# Altium integrated library CDE_Library.IntLib: 6171 symbols (part 24 of 25)
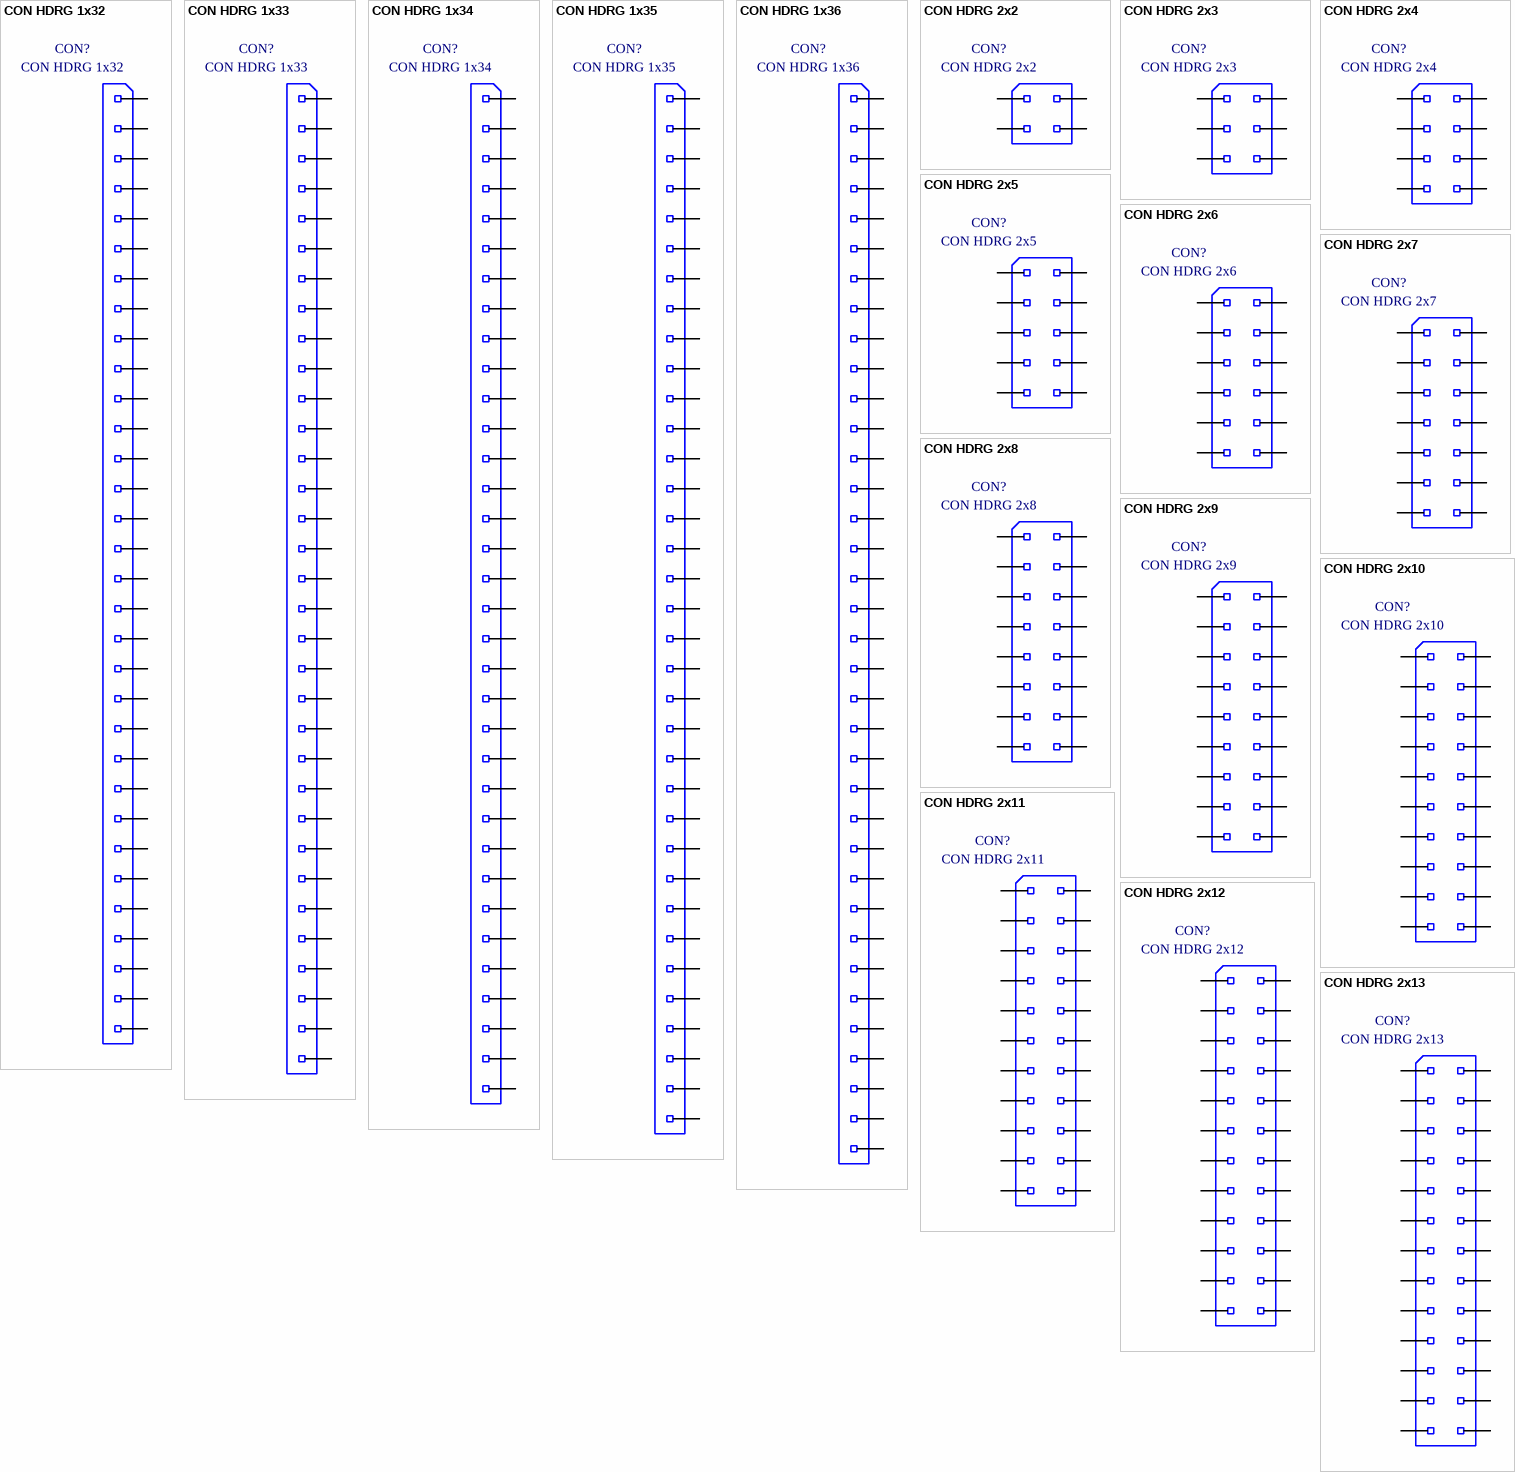
[diagram p280: symbols CON HDRG 1x32 to CON HDRG 2x13]

## CON HDRG 2x8
designator CON?
pcb header recht 2x8  pitch 100mil; Part Number: CON HDRG 2x8; Component Kind: Standard; Component Type: Standard; Designator: CON HDRG 2x8; Footprint: hdr 90gr 2x8; Library Reference: CON HDRG 2x8; Pin Count: 16
footprint hdr 90gr 2x8
pins: 1, 2, 3, 4, 5, 6, 7, 8, 9, 10, 11, 12, 13, 14, 15, 16

## CON HDRG 2x9
designator CON?
pcb header recht 2x9  pitch 100mil; Part Number: CON HDRG 2x9; Component Kind: Standard; Component Type: Standard; Designator: CON HDRG 2x9; Footprint: hdr 90gr 2x9; Library Reference: CON HDRG 2x9; Pin Count: 18
footprint hdr 90gr 2x9
pins: 1, 2, 3, 4, 5, 6, 7, 8, 9, 10, 11, 12, 13, 14, 15, 16, 17, 18

## CON HDRG 2x10
designator CON?
pcb header recht 2x10  pitch 100mil; Part Number: CON HDRG 2x10; Component Kind: Standard; Component Type: Standard; Designator: CON HDRG 2x10; Footprint: hdr 90gr 2x10; Library Reference: CON HDRG 2x10; Pin Count: 20
footprint hdr 90gr 2x10
pins: 1, 2, 3, 4, 5, 6, 7, 8, 9, 10, 11, 12, 13, 14, 15, 16, 17, 18, 19, 20

## CON HDRG 2x11
designator CON?
pcb header recht 2x11  pitch 100mil; Part Number: CON HDRG 2x11; Component Kind: Standard; Component Type: Standard; Designator: CON HDRG 2x11; Footprint: hdr 90gr 2x11; Library Reference: CON HDRG 2x11; Pin Count: 22
footprint hdr 90gr 2x11
pins: 1, 2, 3, 4, 5, 6, 7, 8, 9, 10, 11, 12, 13, 14, 15, 16, 17, 18, 19, 20, 21, 22

## CON HDRG 2x12
designator CON?
pcb header recht 2x12  pitch 100mil; Part Number: CON HDRG 2x12; Component Kind: Standard; Component Type: Standard; Designator: CON HDRG 2x12; Footprint: hdr 90gr 2x12; Library Reference: CON HDRG 2x12; Pin Count: 24
footprint hdr 90gr 2x12
pins: 1, 2, 3, 4, 5, 6, 7, 8, 9, 10, 11, 12, 13, 14, 15, 16, 17, 18, 19, 20, 21, 22, 23, 24

## CON HDRG 2x13
designator CON?
pcb header recht 2x13  pitch 100mil; Part Number: CON HDRG 2x13; Component Kind: Standard; Component Type: Standard; Designator: CON HDRG 2x13; Footprint: hdr 90gr 2x13; Library Reference: CON HDRG 2x13; Pin Count: 26
footprint hdr 90gr 2x13
pins: 1, 2, 3, 4, 5, 6, 7, 8, 9, 10, 11, 12, 13, 14, 15, 16, 17, 18, 19, 20, 21, 22, 23, 24, 25, 26

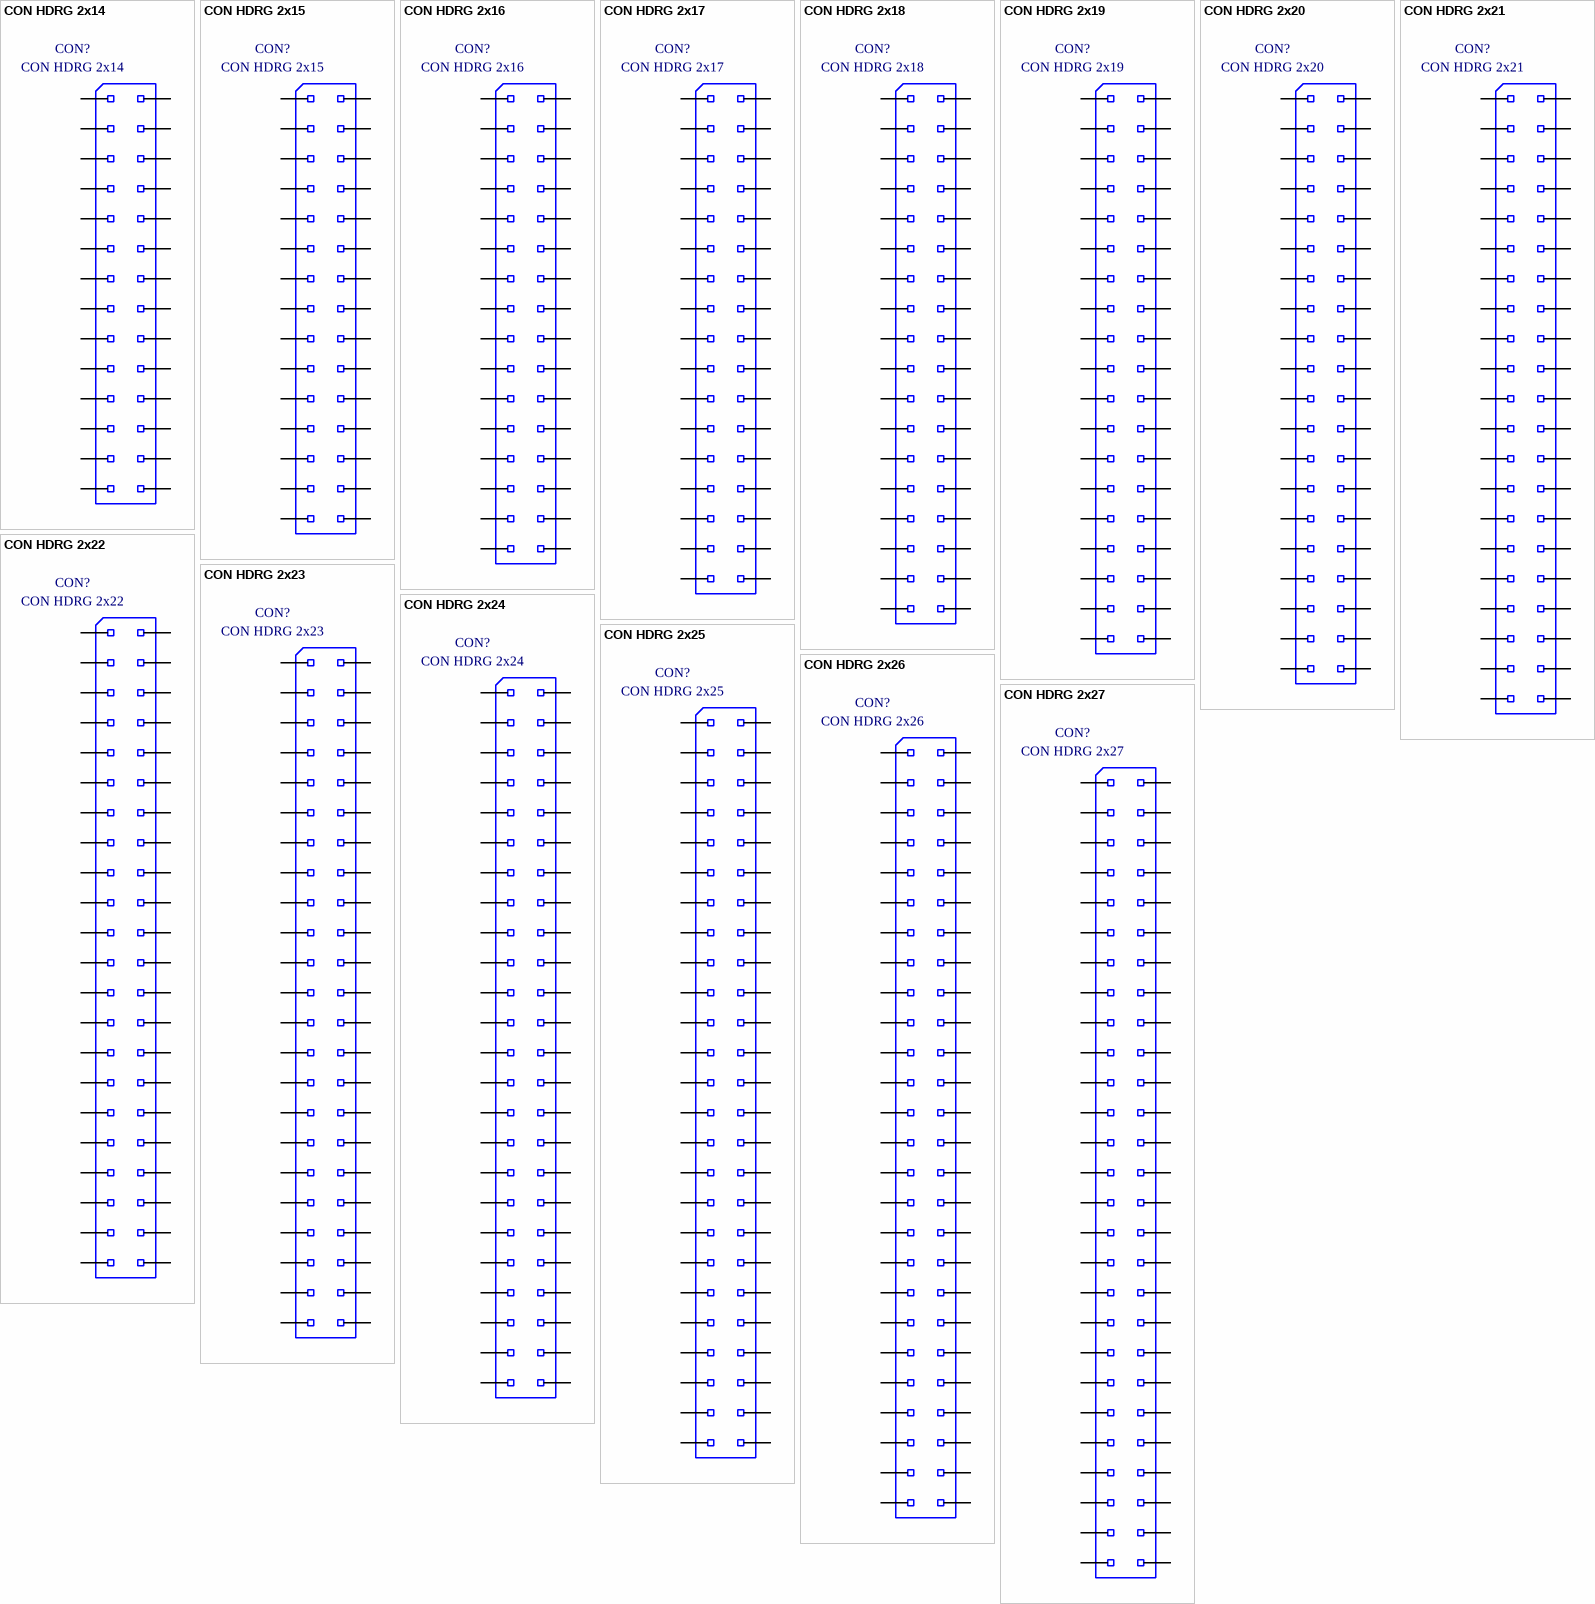
[diagram p249: symbols CON HDRG 2x14 to CON HDRG 2x27]

## CON HDRG 2x14
designator CON?
pcb header recht 2x14  pitch 100mil; Part Number: CON HDRG 2x14; Component Kind: Standard; Component Type: Standard; Designator: CON HDRG 2x14; Footprint: hdr 90gr 2x14; Library Reference: CON HDRG 2x14; Pin Count: 28
footprint hdr 90gr 2x14
pins: 1, 2, 3, 4, 5, 6, 7, 8, 9, 10, 11, 12, 13, 14, 15, 16, 17, 18, 19, 20, 21, 22, 23, 24, 25, 26, 27, 28

## CON HDRG 2x15
designator CON?
pcb header recht 2x15  pitch 100mil; Part Number: CON HDRG 2x15; Component Kind: Standard; Component Type: Standard; Designator: CON HDRG 2x15; Footprint: hdr 90gr 2x15; Library Reference: CON HDRG 2x15; Pin Count: 30
footprint hdr 90gr 2x15
pins: 1, 2, 3, 4, 5, 6, 7, 8, 9, 10, 11, 12, 13, 14, 15, 16, 17, 18, 19, 20, 21, 22, 23, 24, 25, 26, 27, 28, 29, 30

## CON HDRG 2x16
designator CON?
pcb header recht 2x16  pitch 100mil; Part Number: CON HDRG 2x16; Component Kind: Standard; Component Type: Standard; Designator: CON HDRG 2x16; Footprint: hdr 90gr 2x16; Library Reference: CON HDRG 2x16; Pin Count: 32
footprint hdr 90gr 2x16
pins: 1, 2, 3, 4, 5, 6, 7, 8, 9, 10, 11, 12, 13, 14, 15, 16, 17, 18, 19, 20, 21, 22, 23, 24, 25, 26, 27, 28, 29, 30, 31, 32

## CON HDRG 2x17
designator CON?
pcb header recht 2x17  pitch 100mil; Part Number: CON HDRG 2x17; Component Kind: Standard; Component Type: Standard; Designator: CON HDRG 2x17; Footprint: hdr 90gr 2x17; Library Reference: CON HDRG 2x17; Pin Count: 34
footprint hdr 90gr 2x17
pins: 1, 2, 3, 4, 5, 6, 7, 8, 9, 10, 11, 12, 13, 14, 15, 16, 17, 18, 19, 20, 21, 22, 23, 24, 25, 26, 27, 28, 29, 30, 31, 32, 33, 34

## CON HDRG 2x18
designator CON?
pcb header recht 2x18  pitch 100mil; Part Number: CON HDRG 2x18; Component Kind: Standard; Component Type: Standard; Designator: CON HDRG 2x18; Footprint: hdr 90gr 2x18; Library Reference: CON HDRG 2x18; Pin Count: 36
footprint hdr 90gr 2x18
pins: 1, 2, 3, 4, 5, 6, 7, 8, 9, 10, 11, 12, 13, 14, 15, 16, 17, 18, 19, 20, 21, 22, 23, 24, 25, 26, 27, 28, 29, 30, 31, 32, 33, 34, 35, 36

## CON HDRG 2x19
designator CON?
pcb header recht 2x19  pitch 100mil; Part Number: CON HDRG 2x19; Component Kind: Standard; Component Type: Standard; Designator: CON HDRG 2x19; Footprint: hdr 90gr 2x19; Library Reference: CON HDRG 2x19; Pin Count: 38
footprint hdr 90gr 2x19
pins: 1, 2, 3, 4, 5, 6, 7, 8, 9, 10, 11, 12, 13, 14, 15, 16, 17, 18, 19, 20, 21, 22, 23, 24, 25, 26, 27, 28, 29, 30, 31, 32, 33, 34, 35, 36, 37, 38

## CON HDRG 2x20
designator CON?
pcb header recht 2x20  pitch 100mil; Part Number: CON HDRG 2x20; Component Kind: Standard; Component Type: Standard; Designator: CON HDRG 2x20; Footprint: hdr 90gr 2x20; Library Reference: CON HDRG 2x20; Pin Count: 40
footprint hdr 90gr 2x20
pins: 1, 2, 3, 4, 5, 6, 7, 8, 9, 10, 11, 12, 13, 14, 15, 16, 17, 18, 19, 20, 21, 22, 23, 24, 25, 26, 27, 28, 29, 30, 31, 32, 33, 34, 35, 36, 37, 38, 39, 40

## CON HDRG 2x21
designator CON?
pcb header recht 2x21  pitch 100mil; Part Number: CON HDRG 2x21; Component Kind: Standard; Component Type: Standard; Designator: CON HDRG 2x21; Footprint: hdr 90gr 2x21; Library Reference: CON HDRG 2x21; Pin Count: 42
footprint hdr 90gr 2x21
pins: 1, 2, 3, 4, 5, 6, 7, 8, 9, 10, 11, 12, 13, 14, 15, 16, 17, 18, 19, 20, 21, 22, 23, 24, 25, 26, 27, 28, 29, 30, 31, 32, 33, 34, 35, 36, 37, 38, 39, 40, 41, 42

## CON HDRG 2x22
designator CON?
pcb header recht 2x22  pitch 100mil; Part Number: CON HDRG 2x22; Component Kind: Standard; Component Type: Standard; Designator: CON HDRG 2x22; Footprint: hdr 90gr 2x22; Library Reference: CON HDRG 2x22; Pin Count: 44
footprint hdr 90gr 2x22
pins: 1, 2, 3, 4, 5, 6, 7, 8, 9, 10, 11, 12, 13, 14, 15, 16, 17, 18, 19, 20, 21, 22, 23, 24, 25, 26, 27, 28, 29, 30, 31, 32, 33, 34, 35, 36, 37, 38, 39, 40, 41, 42, 43, 44

## CON HDRG 2x23
designator CON?
pcb header recht 2x23  pitch 100mil; Part Number: CON HDRG 2x23; Component Kind: Standard; Component Type: Standard; Designator: CON HDRG 2x23; Footprint: hdr 90gr 2x23; Library Reference: CON HDRG 2x23; Pin Count: 46
footprint hdr 90gr 2x23
pins: 1, 2, 3, 4, 5, 6, 7, 8, 9, 10, 11, 12, 13, 14, 15, 16, 17, 18, 19, 20, 21, 22, 23, 24, 25, 26, 27, 28, 29, 30, 31, 32, 33, 34, 35, 36, 37, 38, 39, 40, 41, 42, 43, 44, 45, 46

## CON HDRG 2x24
designator CON?
pcb header recht 2x24  pitch 100mil; Part Number: CON HDRG 2x24; Component Kind: Standard; Component Type: Standard; Designator: CON HDRG 2x24; Footprint: hdr 90gr 2x24; Library Reference: CON HDRG 2x24; Pin Count: 48
footprint hdr 90gr 2x24
pins: 1, 2, 3, 4, 5, 6, 7, 8, 9, 10, 11, 12, 13, 14, 15, 16, 17, 18, 19, 20, 21, 22, 23, 24, 25, 26, 27, 28, 29, 30, 31, 32, 33, 34, 35, 36, 37, 38, 39, 40, 41, 42, 43, 44, 45, 46, 47, 48

## CON HDRG 2x25
designator CON?
pcb header recht 2x25  pitch 100mil; Part Number: CON HDRG 2x25; Component Kind: Standard; Component Type: Standard; Designator: CON HDRG 2x25; Footprint: hdr 90gr 2x25; Library Reference: CON HDRG 2x25; Pin Count: 50
footprint hdr 90gr 2x25
pins: 1, 2, 3, 4, 5, 6, 7, 8, 9, 10, 11, 12, 13, 14, 15, 16, 17, 18, 19, 20, 21, 22, 23, 24, 25, 26, 27, 28, 29, 30, 31, 32, 33, 34, 35, 36, 37, 38, 39, 40, 41, 42, 43, 44, 45, 46, 47, 48, 49, 50

## CON HDRG 2x26
designator CON?
pcb header recht 2x26  pitch 100mil; Part Number: CON HDRG 2x26; Component Kind: Standard; Component Type: Standard; Designator: CON HDRG 2x26; Footprint: hdr 90gr 2x26; Library Reference: CON HDRG 2x26; Pin Count: 52
footprint hdr 90gr 2x26
pins: 1, 2, 3, 4, 5, 6, 7, 8, 9, 10, 11, 12, 13, 14, 15, 16, 17, 18, 19, 20, 21, 22, 23, 24, 25, 26, 27, 28, 29, 30, 31, 32, 33, 34, 35, 36, 37, 38, 39, 40, 41, 42, 43, 44, 45, 46, 47, 48, 49, 50, 51, 52

## CON HDRG 2x27
designator CON?
pcb header recht 2x27  pitch 100mil; Part Number: CON HDRG 2x27; Component Kind: Standard; Component Type: Standard; Designator: CON HDRG 2x27; Footprint: hdr 90gr 2x27; Library Reference: CON HDRG 2x27; Pin Count: 54
footprint hdr 90gr 2x27
pins: 1, 2, 3, 4, 5, 6, 7, 8, 9, 10, 11, 12, 13, 14, 15, 16, 17, 18, 19, 20, 21, 22, 23, 24, 25, 26, 27, 28, 29, 30, 31, 32, 33, 34, 35, 36, 37, 38, 39, 40, 41, 42, 43, 44, 45, 46, 47, 48, 49, 50, 51, 52, 53, 54

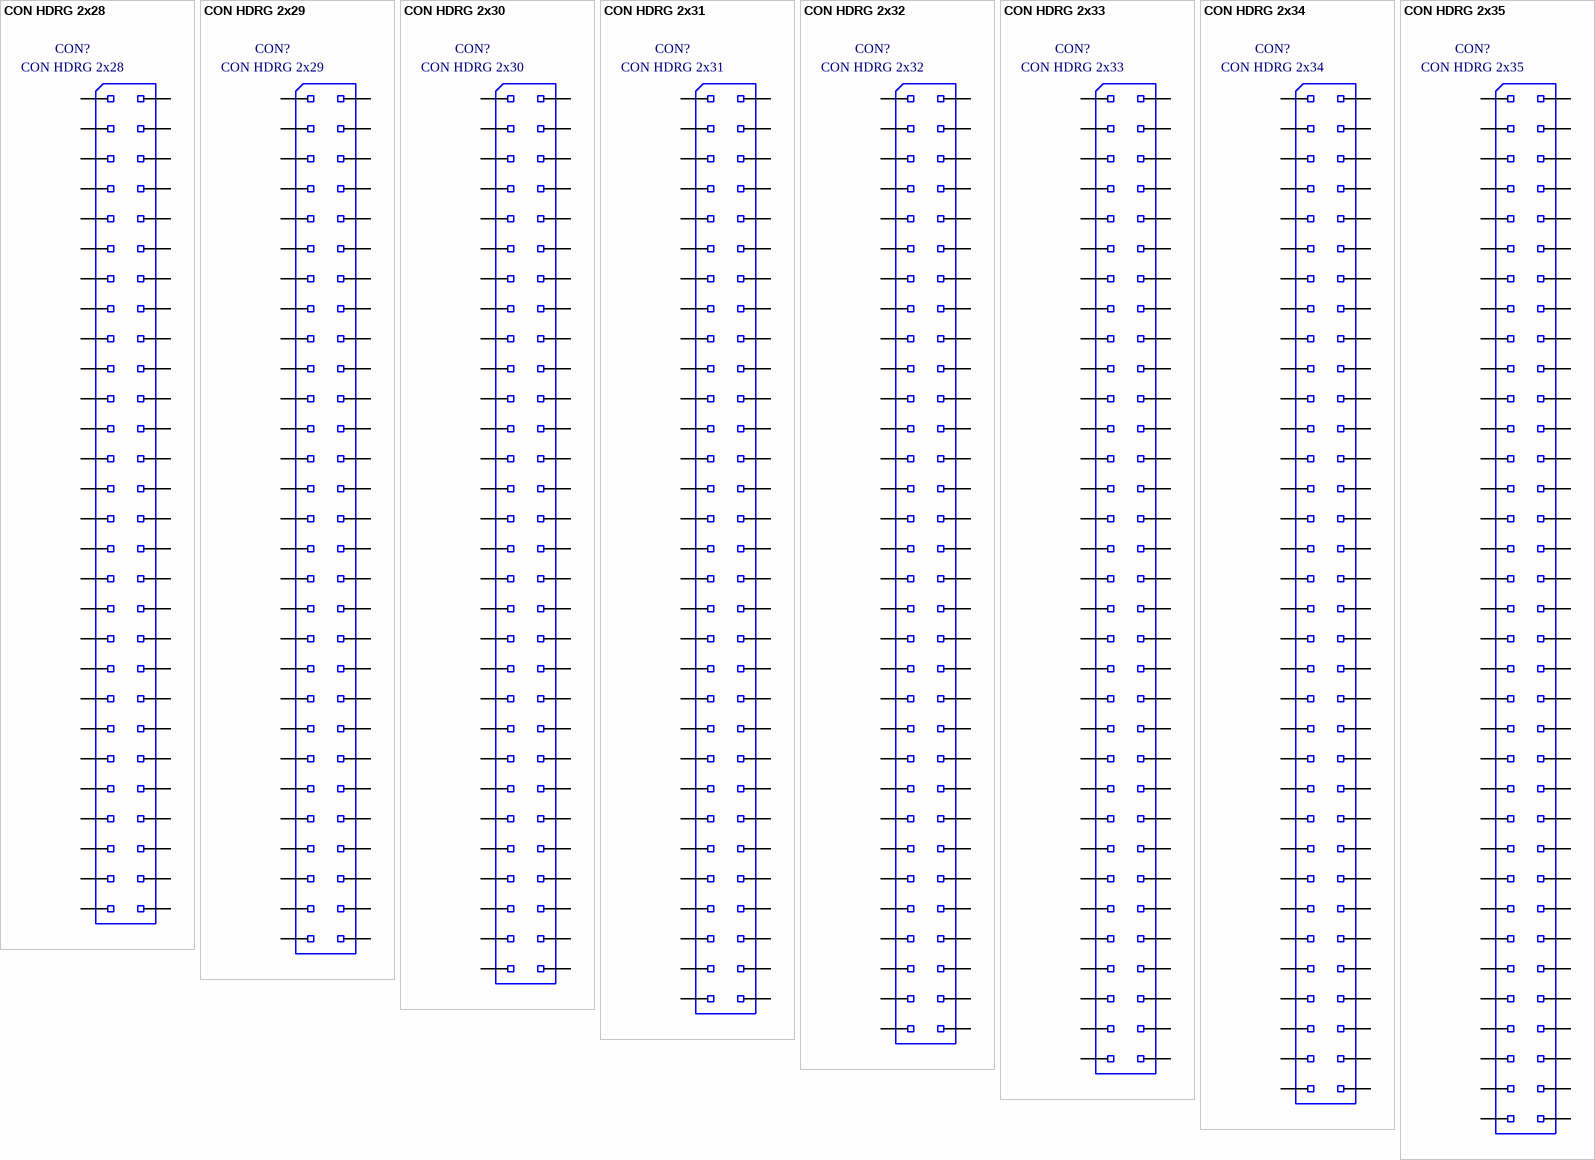
[diagram p250: symbols CON HDRG 2x28 to CON HDRG 2x35]

## CON HDRG 2x28
designator CON?
pcb header recht 2x28  pitch 100mil; Part Number: CON HDRG 2x28; Component Kind: Standard; Component Type: Standard; Designator: CON HDRG 2x28; Footprint: hdr 90gr 2x28; Library Reference: CON HDRG 2x28; Pin Count: 56
footprint hdr 90gr 2x28
pins: 1, 2, 3, 4, 5, 6, 7, 8, 9, 10, 11, 12, 13, 14, 15, 16, 17, 18, 19, 20, 21, 22, 23, 24, 25, 26, 27, 28, 29, 30, 31, 32, 33, 34, 35, 36, 37, 38, 39, 40, 41, 42, 43, 44, 45, 46, 47, 48, 49, 50, 51, 52, 53, 54, 55, 56

## CON HDRG 2x29
designator CON?
pcb header recht 2x29  pitch 100mil; Part Number: CON HDRG 2x29; Component Kind: Standard; Component Type: Standard; Designator: CON HDRG 2x29; Footprint: hdr 90gr 2x29; Library Reference: CON HDRG 2x29; Pin Count: 58
footprint hdr 90gr 2x29
pins: 1, 2, 3, 4, 5, 6, 7, 8, 9, 10, 11, 12, 13, 14, 15, 16, 17, 18, 19, 20, 21, 22, 23, 24, 25, 26, 27, 28, 29, 30, 31, 32, 33, 34, 35, 36, 37, 38, 39, 40, 41, 42, 43, 44, 45, 46, 47, 48, 49, 50, 51, 52, 53, 54, 55, 56, 57, 58

## CON HDRG 2x30
designator CON?
pcb header recht 2x30  pitch 100mil; Part Number: CON HDRG 2x30; Component Kind: Standard; Component Type: Standard; Designator: CON HDRG 2x30; Footprint: hdr 90gr 2x30; Library Reference: CON HDRG 2x30; Pin Count: 60
footprint hdr 90gr 2x30
pins: 1, 2, 3, 4, 5, 6, 7, 8, 9, 10, 11, 12, 13, 14, 15, 16, 17, 18, 19, 20, 21, 22, 23, 24, 25, 26, 27, 28, 29, 30, 31, 32, 33, 34, 35, 36, 37, 38, 39, 40, 41, 42, 43, 44, 45, 46, 47, 48, 49, 50, 51, 52, 53, 54, 55, 56, 57, 58, 59, 60

## CON HDRG 2x31
designator CON?
pcb header recht 2x31  pitch 100mil; Part Number: CON HDRG 2x31; Component Kind: Standard; Component Type: Standard; Designator: CON HDRG 2x31; Footprint: hdr 90gr 2x31; Library Reference: CON HDRG 2x31; Pin Count: 62
footprint hdr 90gr 2x31
pins: 1, 2, 3, 4, 5, 6, 7, 8, 9, 10, 11, 12, 13, 14, 15, 16, 17, 18, 19, 20, 21, 22, 23, 24, 25, 26, 27, 28, 29, 30, 31, 32, 33, 34, 35, 36, 37, 38, 39, 40, 41, 42, 43, 44, 45, 46, 47, 48, 49, 50, 51, 52, 53, 54, 55, 56, 57, 58, 59, 60, 61, 62

## CON HDRG 2x32
designator CON?
pcb header recht 2x32  pitch 100mil; Part Number: CON HDRG 2x32; Component Kind: Standard; Component Type: Standard; Designator: CON HDRG 2x32; Footprint: hdr 90gr 2x32; Library Reference: CON HDRG 2x32; Pin Count: 64
footprint hdr 90gr 2x32
pins: 1, 2, 3, 4, 5, 6, 7, 8, 9, 10, 11, 12, 13, 14, 15, 16, 17, 18, 19, 20, 21, 22, 23, 24, 25, 26, 27, 28, 29, 30, 31, 32, 33, 34, 35, 36, 37, 38, 39, 40, 41, 42, 43, 44, 45, 46, 47, 48, 49, 50, 51, 52, 53, 54, 55, 56, 57, 58, 59, 60, 61, 62, 63, 64

## CON HDRG 2x33
designator CON?
pcb header recht 2x33  pitch 100mil; Part Number: CON HDRG 2x33; Component Kind: Standard; Component Type: Standard; Designator: CON HDRG 2x33; Footprint: hdr 90gr 2x33; Library Reference: CON HDRG 2x33; Pin Count: 66
footprint hdr 90gr 2x33
pins: 1, 2, 3, 4, 5, 6, 7, 8, 9, 10, 11, 12, 13, 14, 15, 16, 17, 18, 19, 20, 21, 22, 23, 24, 25, 26, 27, 28, 29, 30, 31, 32, 33, 34, 35, 36, 37, 38, 39, 40, 41, 42, 43, 44, 45, 46, 47, 48, 49, 50, 51, 52, 53, 54, 55, 56, 57, 58, 59, 60, 61, 62, 63, 64, 65, 66

## CON HDRG 2x34
designator CON?
pcb header recht 2x34  pitch 100mil; Part Number: CON HDRG 2x34; Component Kind: Standard; Component Type: Standard; Designator: CON HDRG 2x34; Footprint: hdr 90gr 2x34; Library Reference: CON HDRG 2x34; Pin Count: 68
footprint hdr 90gr 2x34
pins: 1, 2, 3, 4, 5, 6, 7, 8, 9, 10, 11, 12, 13, 14, 15, 16, 17, 18, 19, 20, 21, 22, 23, 24, 25, 26, 27, 28, 29, 30, 31, 32, 33, 34, 35, 36, 37, 38, 39, 40, 41, 42, 43, 44, 45, 46, 47, 48, 49, 50, 51, 52, 53, 54, 55, 56, 57, 58, 59, 60, 61, 62, 63, 64, 65, 66, 67, 68

## CON HDRG 2x35
designator CON?
pcb header recht 2x35  pitch 100mil; Part Number: CON HDRG 2x35; Component Kind: Standard; Component Type: Standard; Designator: CON HDRG 2x35; Footprint: hdr 90gr 2x35; Library Reference: CON HDRG 2x35; Pin Count: 70
footprint hdr 90gr 2x35
pins: 1, 2, 3, 4, 5, 6, 7, 8, 9, 10, 11, 12, 13, 14, 15, 16, 17, 18, 19, 20, 21, 22, 23, 24, 25, 26, 27, 28, 29, 30, 31, 32, 33, 34, 35, 36, 37, 38, 39, 40, 41, 42, 43, 44, 45, 46, 47, 48, 49, 50, 51, 52, 53, 54, 55, 56, 57, 58, 59, 60, 61, 62, 63, 64, 65, 66, 67, 68, 69, 70

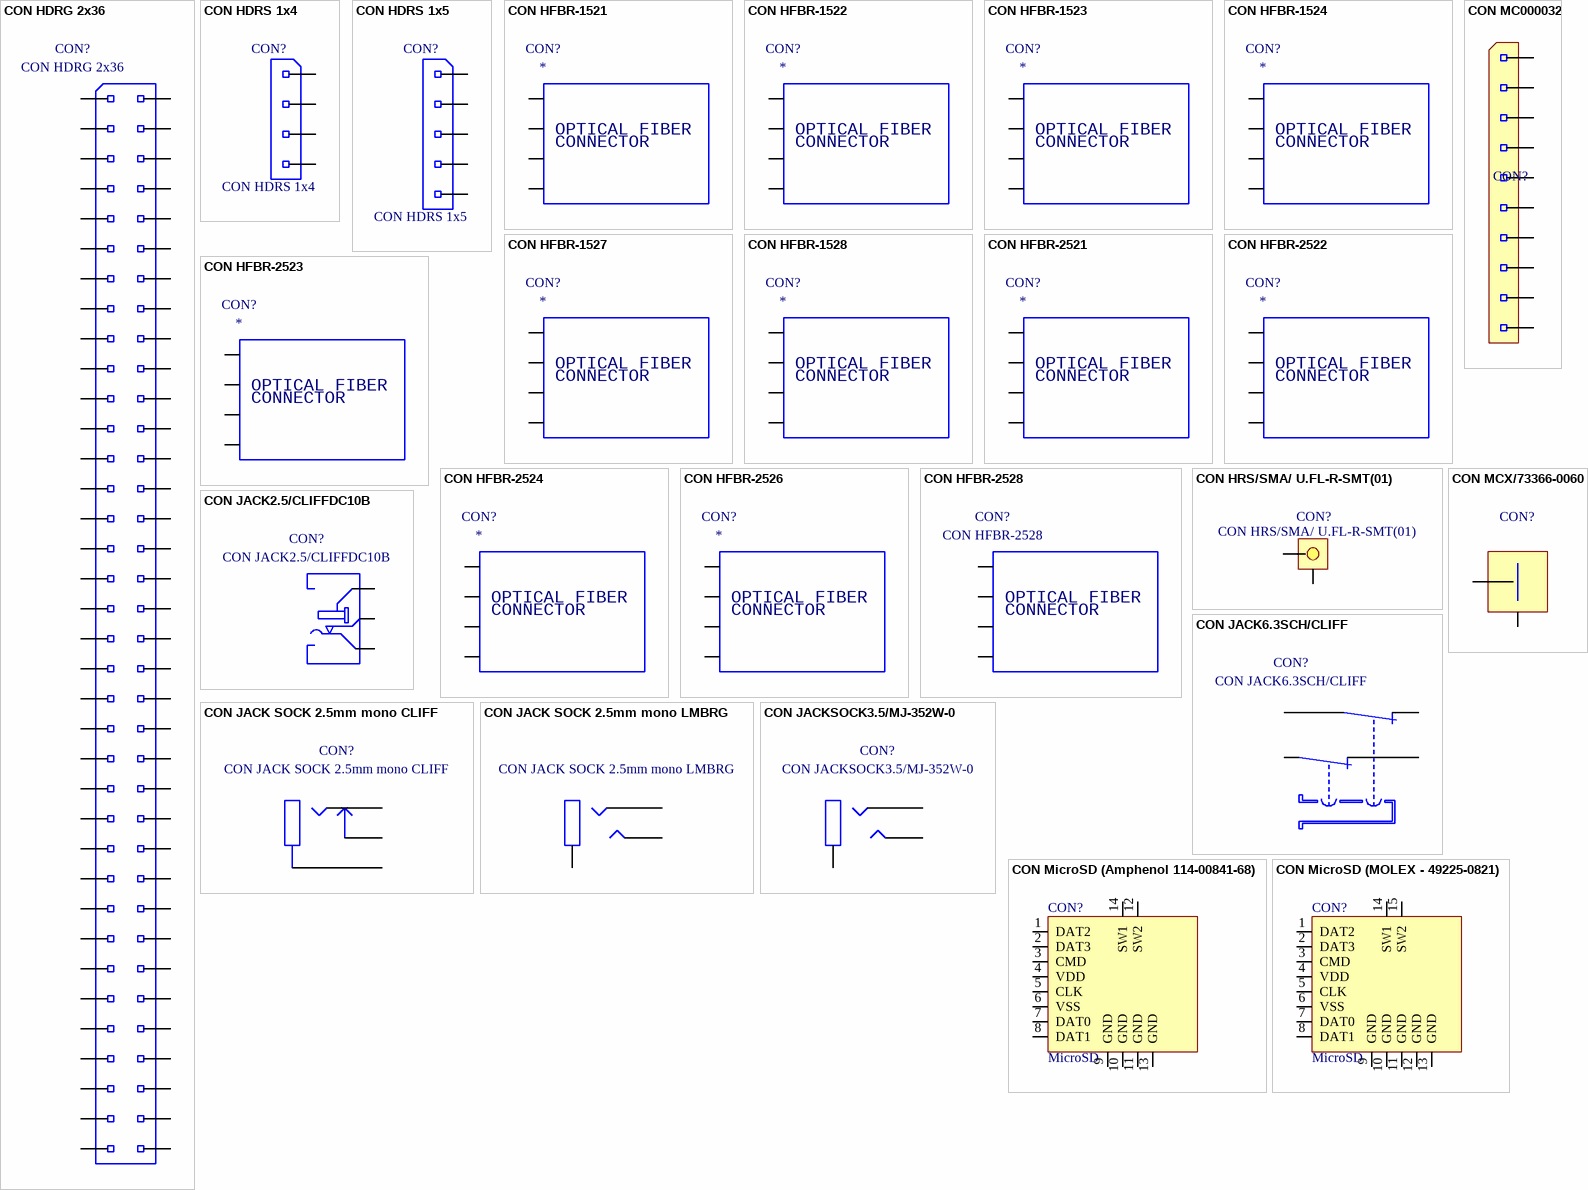
[diagram p251: symbols CON HDRG 2x36 to CON MicroSD (MOLEX - 49225-0821)]

## CON HDRG 2x36
designator CON?
pcb header recht 2x36 pitch 100mil; Part Number: CON HDRG 2x36; Component Kind: Standard; Component Type: Standard; Designator: CON HDRG 2x36; Footprint: hdr 90gr 2x36; Library Reference: CON HDRG 2x36; Pin Count: 72
footprint hdr 90gr 2x36
pins: 1, 2, 3, 4, 5, 6, 7, 8, 9, 10, 11, 12, 13, 14, 15, 16, 17, 18, 19, 20, 21, 22, 23, 24, 25, 26, 27, 28, 29, 30, 31, 32, 33, 34, 35, 36, 37, 38, 39, 40, 41, 42, 43, 44, 45, 46, 47, 48, 49, 50, 51, 52, 53, 54, 55, 56, 57, 58, 59, 60, 61, 62, 63, 64, 65, 66, 67, 68, 69, 70, 71, 72

## CON HDRS 1x4
designator CON?
pcb header side-entry 100mil pitch, 1x4; Part Number: CON HDRS 1x4; Component Kind: Standard; Component Type: Standard; Designator: CON HDRS 1x4; Footprint: hdrs 1x4; Library Reference: CON HDRS 1x4; Pin Count: 4
footprint hdrs 1x4
pins: 1, 2, 3, 4

## CON HDRS 1x5
designator CON?
pcb header side-entry 100mil pitch, 1x4; Part Number: CON HDRS 1x5; Component Kind: Standard; Component Type: Standard; Designator: CON HDRS 1x5; Footprint: hdrs 1x5; Library Reference: CON HDRS 1x5; Pin Count: 5
footprint hdrs 1x5
pins: 1, 2, 3, 4, 5

## CON HFBR-1521
designator CON?
optische vezel connector Agilent Tech., zender, 5MBd, high perfor.
footprint con HFBR-x5xx H
pins: 1, 2, 3, 4
text: OPTICAL FIBER; CONNECTOR

## CON HFBR-1522
designator CON?
optische vezel connector Agilent Tech., zender, 1MBd, high perfor.
footprint con HFBR-x5xx H
pins: 1, 2, 3, 4
text: OPTICAL FIBER; CONNECTOR

## CON HFBR-1523
designator CON?
optische vezel connector Agilent Tech., zender, 40kBd low cur.
footprint con HFBR-x5xx H
pins: 1, 2, 3, 4
text: OPTICAL FIBER; CONNECTOR

## CON HFBR-1524
designator CON?
optische vezel connector Agilent Tech., zender, 1MBd, stand. link
footprint con HFBR-x5xx H
pins: 1, 2, 3, 4
text: OPTICAL FIBER; CONNECTOR

## CON HFBR-1527
designator CON?
optische vezel connector Agilent Tech., zender, 155MBd
footprint con HFBR-x5xx H
pins: 1, 2, 3, 4
text: OPTICAL FIBER; CONNECTOR

## CON HFBR-1528
designator CON?
optische vezel connector Agilent Tech., zender, 10MBd, high perfor.
footprint con HFBR-x5xx H
pins: 1, 2, 3, 4
text: OPTICAL FIBER; CONNECTOR

## CON HFBR-2521
designator CON?
optische vezel connector Agilent Tech., ontvanger, 5MBd, high perfor.
footprint con HFBR-x5xx H
pins: 1, 2, 3, 4
text: OPTICAL FIBER; CONNECTOR

## CON HFBR-2522
designator CON?
optische vezel connector Agilent Tech., ontvanger, 1MBd, high perfor.
footprint con HFBR-x5xx H
pins: 1, 2, 3, 4
text: OPTICAL FIBER; CONNECTOR

## CON HFBR-2523
designator CON?
optische vezel connector Agilent Tech., ontvanger, 40kBd low cur.
footprint con HFBR-x5xx H
pins: 1, 2, 3, 4
text: OPTICAL FIBER; CONNECTOR

## CON HFBR-2524
designator CON?
optische vezel connector Agilent Tech., ontvanger, 1MBd, stand. link
footprint con HFBR-x5xx H
pins: 1, 2, 3, 4
text: OPTICAL FIBER; CONNECTOR

## CON HFBR-2526
designator CON?
optische vezel connector Agilent Tech., ontvanger, 155MBd
footprint con HFBR-x5xx H
pins: 1, 2, 3, 4
text: OPTICAL FIBER; CONNECTOR

## CON HFBR-2528
designator CON?
optische vezel connector Agilent Tech., ontvanger, 10MBd, high perfor.; Part Number: CON HFBR-2528; Component Kind: Standard; Component Type: Standard; Designator: CON HFBR-2528; Footprint: con HFBR-x5xx H; Library Reference: CON HFBR-2528; Pin Count: 4
footprint con HFBR-x5xx H
pins: 1, 2, 3, 4
text: OPTICAL FIBER; CONNECTOR

## CON HRS/SMA/ U.FL-R-SMT(01)
designator CON?
connector Hirose, U.FL serie, U.FL-R-SMT(01)
footprint smd U.FL (Hirose U.FL smt RF connector)
pins: 0, 1

## CON JACK2.5/CLIFFDC10B
designator CON?
jack 2.5mm, mono, wisselcontact, Cliff DC10B; Part Number: CON JACK2.5/CLIFFDC10B; Component Kind: Standard; Component Type: Standard; Designator: CON JACK2.5/CLIFFDC10B; Footprint: con jack2.5 mono wis (Cliff DC10B); Library Reference: CON JACK2.5/CLIFFDC10B; Pin Count: 3
footprint con jack2.5 mono wis (Cliff DC10B)
pins: 1, 2, 3

## CON JACK6.3SCH/CLIFF
designator CON?
jack 6.3mm, mono, dubbelpolige schakelaar, Cliff S2BNBPCA; Part Number: CON JACK6.3SCH/CLIFF; Component Kind: Standard; Component Type: Standard; Designator: CON JACK6.3SCH/CLIFF; Footprint: con jack6.3 mono ds (Cliff S2BNBPCA); Library Reference: CON JACK6.3SCH/CLIFF; Pin Count: 4
footprint con jack6.3 mono ds (Cliff S2BNBPCA)
pins: 1, 2, 3, 4

## CON JACK SOCK 2.5mm mono CLIFF
designator CON?
audio jack socket 2.5mm mono switch CLIFF FC68102; Part Number: CON JACK SOCK 2.5mm mono CLIFF; Component Kind: Standard; Component Type: Standard; Designator: CON JACK SOCK 2.5mm mono CLIFF; Footprint: con jacksock 2.5mm mono (Cliff FC68102); Library Reference: CON JACK SOCK 2.5mm mono CLIFF; Pin Count: 3
footprint con jacksock 2.5mm mono (Cliff FC68102)
pins: 1, 2, 3

## CON JACK SOCK 2.5mm mono LMBRG
designator ?
audio jack socket 2.5mm Mono Lumberg 1501 06; Part Number: CON JACK SOCK 2.5mm mono LMBRG; Component Kind: Standard; Component Type: Standard; Designator: CON JACK SOCK 2.5mm mono LMBRG; Footprint: con jack sock 2.5mm (Lumberg 1501 06); Library Reference: CON JACK SOCK 2.5mm mono LMBRG; Pin Count: 3
footprint con jack sock 2.5mm (Lumberg 1501 06)
pins: 1, 2, 3

## CON JACKSOCK3.5/MJ-352W-0
designator CON?
audio socket 3.5mm stereo, MJ-352W-0; Part Number: CON JACKSOCK3.5/MJ-352W-0; Component Kind: Standard; Component Type: Standard; Designator: CON JACKSOCK3.5/MJ-352W-0; Footprint: con jacksock 3.5mm (MJ-352W-0); Library Reference: CON JACKSOCK3.5/MJ-352W-0; Pin Count: 3
footprint con jacksock 3.5mm (MJ-352W-0)
pins: 1, 2, 3

## CON MC000032
designator CON?  (value not drawn)
connector Multicomp, MC000032 5mm screw terminal
footprint mc000032 (Terminal block 5mm)
pins: 1, 2, 3, 4, 5, 6, 7, 8, 9, 10

## CON MCX/73366-0060
designator CON?
connector Molex, MCX serie, 73366-0060; Part Number: CON APN/MMCX/1X-502-00; Component Kind: Standard; Component Type: Standard; Designator: CON APN/MMCX/1X-502-00; Footprint: con smd MMCX 1X-502-00 (Amphenol); Library Reference: CON APN/MMCX/1X-502-00; Pin Count: 3
footprint con MCX plug recht (MOLEX - 73366-0060)
pins: 1, 2

## CON MicroSD (Amphenol 114-00841-68)
designator CON?, comment MicroSD
MicroSD connector Amphenol 114-00841-68
footprint smd MicroSD (AMPHENOL 114-00841-68)
pins: 1 DAT2, 2 DAT3, 3 CMD, 4 VDD, 5 CLK, 6 VSS, 7 DAT0, 8 DAT1, 9 GND, 10 GND, 11 GND, 12 SW2, 13 GND, 14 SW1

## CON MicroSD (MOLEX - 49225-0821)
designator CON?, comment MicroSD
MicroSD connector MOLEX - 49225-0821
footprint smd MicroSD (MOLEX - 49225-0821)
pins: 1 DAT2, 2 DAT3, 3 CMD, 4 VDD, 5 CLK, 6 VSS, 7 DAT0, 8 DAT1, 9 GND, 10 GND, 11 GND, 12 GND, 13 GND, 14 SW1, 15 SW2

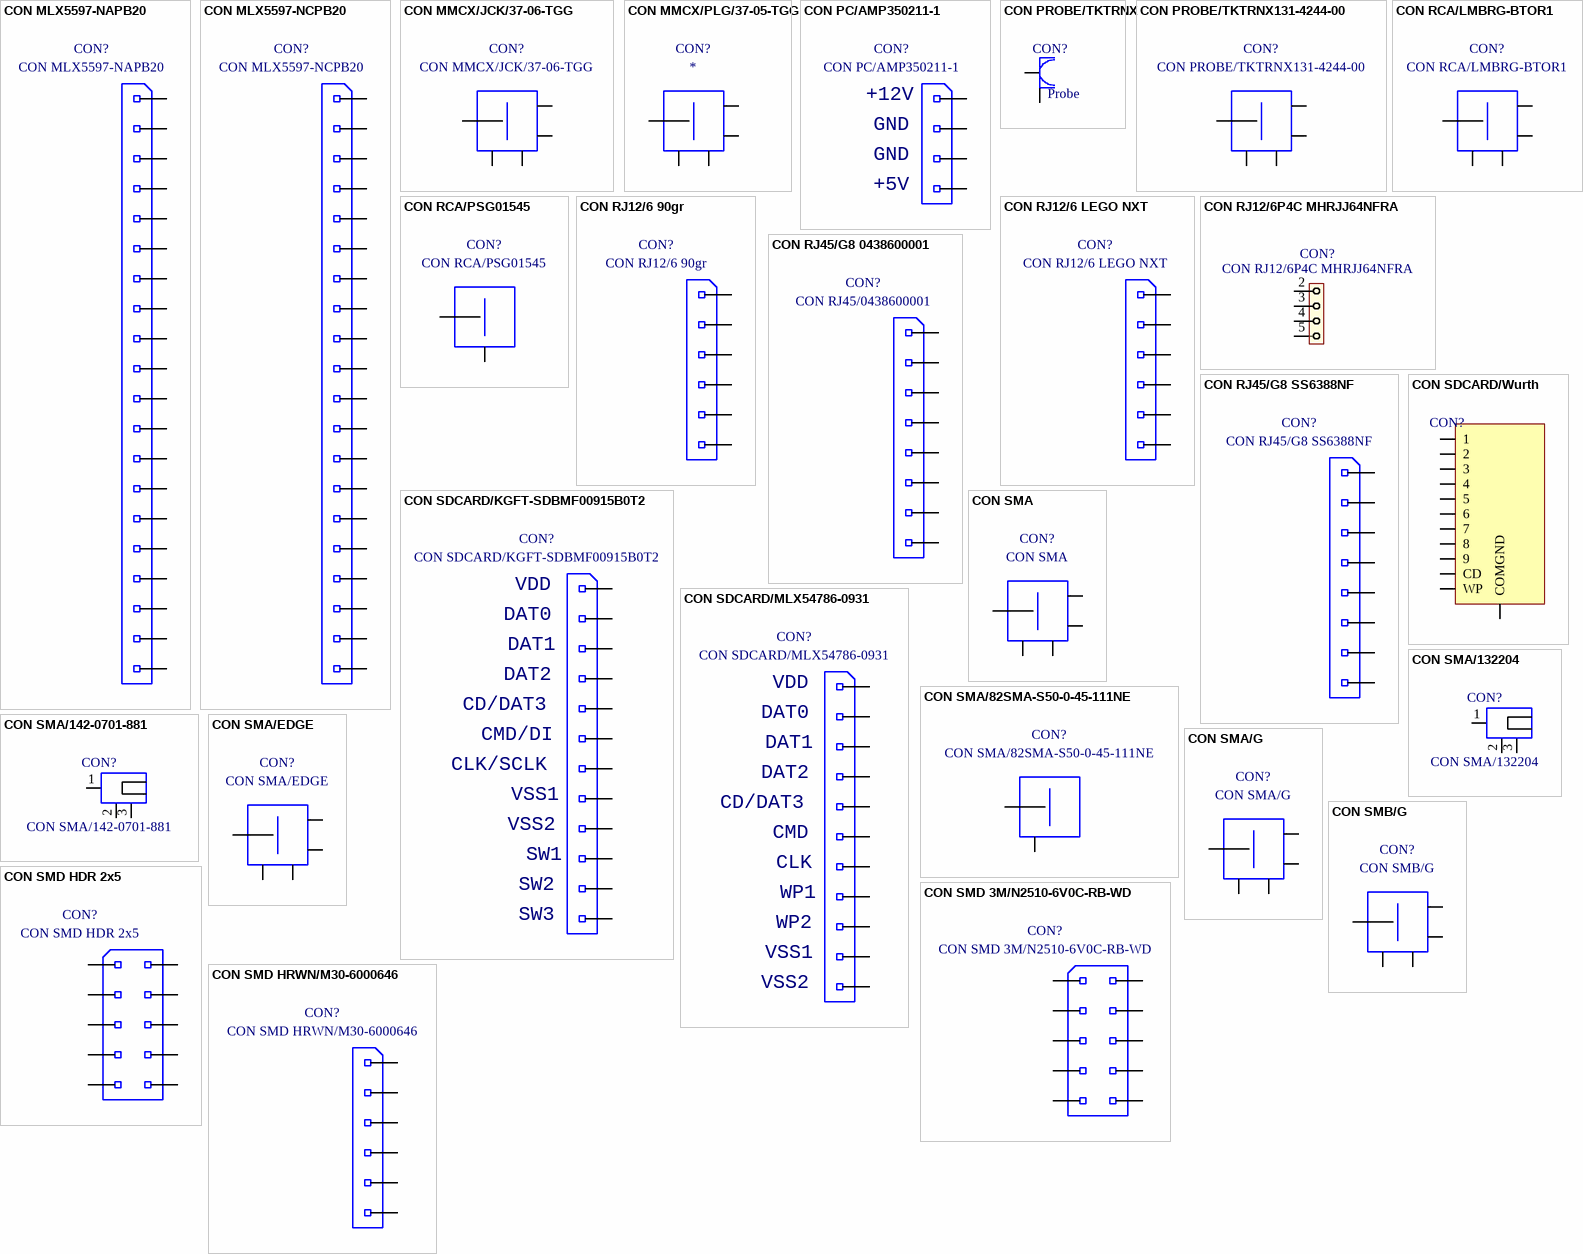
[diagram p252: symbols CON MLX5597-NAPB20 to CON SMD HRWN/M30-6000646]

## CON MLX5597-NAPB20
designator CON?
connector FFC/FPC, Molex 5597-NAPB, zif, 90gr, 20 pennen, pitch 1.25mm; Part Number: CON MLX5597-NAPB20; Component Kind: Standard; Component Type: Standard; Designator: CON MLX5597-NAPB20; Footprint: con 5597-NAPB 20p (Molex); Library Reference: CON MLX5597-NAPB20; Pin Count: 20
footprint con 5597-NAPB 20p (Molex)
pins: 1, 2, 3, 4, 5, 6, 7, 8, 9, 10, 11, 12, 13, 14, 15, 16, 17, 18, 19, 20

## CON MLX5597-NCPB20
designator CON?
connector FFC/FPC, Molex 5597-NCPB, zif, recht, 20 pennen, pitch 1.25mm; Part Number: CON MLX5597-NCPB20; Component Kind: Standard; Component Type: Standard; Designator: CON MLX5597-NCPB20; Footprint: con 5597-NCPB 20p (Molex); Library Reference: CON MLX5597-NCPB20; Pin Count: 20
footprint con 5597-NCPB 20p (Molex)
pins: 1, 2, 3, 4, 5, 6, 7, 8, 9, 10, 11, 12, 13, 14, 15, 16, 17, 18, 19, 20

## CON MMCX/JCK/37-06-TGG
designator CON?
connector Multicomp, jack MMCX 37-06-TGG; Part Number: CON MMCX/JCK/37-06-TGG; Component Kind: Standard; Component Type: Standard; Designator: CON MMCX/JCK/37-06-TGG; Footprint: con MMCX plug recht (Multicomp 37-05-TGG); Library Reference: CON MMCX/JCK/37-06-TGG; Pin Count: 5
footprint con MMCX plug recht (Multicomp 37-05-TGG)
pins: 1, 2, 3, 4, 5

## CON MMCX/PLG/37-05-TGG
designator CON?
connector Multicomp, plug MMCX 37-05-TGG
footprint con MMCX plug recht (Multicomp 37-05-TGG)
pins: 1, 2, 3, 4, 5

## CON PC/AMP350211-1
designator CON?
connector, pc floppy drive, AMP 350211-1, 4 pennen; Part Number: CON PC/AMP350211-1; Component Kind: Standard; Component Type: Standard; Designator: CON PC/AMP350211-1; Footprint: con 350211-1 (Amp); Library Reference: CON PC/AMP350211-1; Pin Count: 4
footprint con 350211-1 (Amp)
pins: 1, 2, 3, 4
text: +12V; GND; +5V

## CON PROBE/TKTRNX
designator CON?, comment Probe
Probe connector Tektronix
footprint con probe (Tektronix probe connector)
pins: 1, 2

## CON PROBE/TKTRNX131-4244-00
designator CON?
probeconnector, Tektronix 131-4244-00; Part Number: CON PROBE/TKTRNX131-4244-00; Component Kind: Standard; Component Type: Standard; Designator: CON PROBE/TKTRNX131-4244-00; Footprint: con probe (Tektronix 131-4244-00); Library Reference: CON PROBE/TKTRNX131-4244-00; Pin Count: 5
footprint con probe (Tektronix 131-4244-00)
pins: 1, 2, 3, 4, 5

## CON RCA/LMBRG-BTOR1
designator CON?
connector RCA, Lumberg BTOR1; Part Number: CON RCA/LMBRG-BTOR1; Component Kind: Standard; Component Type: Standard; Designator: CON RCA/LMBRG-BTOR1; Footprint: con RCA/LMBRG-BTOR1; Library Reference: CON RCA/LMBRG-BTOR1; Pin Count: 5
footprint con RCA/LMBRG-BTOR1
pins: 1, 2, 3, 4, 5

## CON RCA/PSG01545
designator CON?
connector, rca, cinch, 90gr, Pro Signal PSG01545; Part Number: CON RCA/PSG01545; Component Kind: Standard; Component Type: Standard; Designator: CON RCA/PSG01545; Footprint: con RCA 90gr (Pro Signal PSG01545); Library Reference: CON RCA/PSG01545; Pin Count: 2
footprint con RCA 90gr (Pro Signal PSG01545)
pins: 2, 3

## CON RJ12/6 90gr
designator CON?
RJ-12 6 pin connector; Part Number: CON RJ12/6 90gr; Component Kind: Standard; Component Type: Standard; Designator: CON RJ12/6 90gr; Footprint: con RJ12/6 90gr; Library Reference: CON RJ12/6 90gr; Pin Count: 6
footprint con RJ12/6 90gr
pins: 1, 2, 3, 4, 5, 6

## CON RJ12/6 LEGO NXT
designator CON?
RJ-12 6 pin connector LEGO NXT compatible; Part Number: CON RJ12/6 LEGO NXT; Component Kind: Standard; Component Type: Standard; Designator: CON RJ12/6 LEGO NXT; Footprint: con RJ12/6 LEGO NXT; Library Reference: CON RJ12/6 LEGO NXT; Pin Count: 6
footprint con RJ12/6 LEGO NXT
pins: 1, 2, 3, 4, 5, 6

## CON RJ12/6P4C MHRJJ64NFRA
designator CON?
footprint CON RJ12/6P4C 90GR (MHRJJ64NFRA)
pins: 2, 3, 4, 5

## CON RJ45/G8 0438600001
designator CON?, comment CON RJ45/0438600001
connector RJ45, 8 pennen, 90gr, Molex 0438600001; Component Kind: Standard; Component Type: Standard; Pin Count: 8
footprint con RJ45/0438600001 (Molex 0438600001 RJ45 jack)
pins: 1, 2, 3, 4, 5, 6, 7, 8

## CON RJ45/G8 SS6388NF
designator CON?
connector RJ45, 8 pennen, 90gr, Stewart SS-6388NF; Part Number: CON RJ45/G8 SS6388NF; Component Kind: Standard; Component Type: Standard; Designator: CON RJ45/G8 SS6388NF; Footprint: con RJ45/8 90gr (Stewart SS-6388NF); Library Reference: CON RJ45/G8 SS6388NF; Pin Count: 8
footprint con RJ45/8 90gr (Stewart SS-6388NF)
pins: 1, 2, 3, 4, 5, 6, 7, 8

## CON SDCARD/KGFT-SDBMF00915B0T2
designator CON?
SD-card connector, Kingfont SDBMF-00915B0T2; Part Number: CON SDCARD/KGFT-SDBMF00915B0T2; Component Kind: Standard; Component Type: Standard; Designator: CON SDCARD/KGFT-SDBMF00915B0T2; Footprint: con SD-card (MULTICOMP SDBMF-00915B0T2); Library Reference: CON SDCARD/KGFT-SDBMF00915B0T2; Pin Count: 12
footprint con SD-card (MULTICOMP SDBMF-00915B0T2)
pins: 1, 2, 3, 4, 5, 6, 7, 8, 9, 10, 11, 12
text: VDD; DAT0; DAT1; DAT2; CD/DAT3; CMD/DI; CLK/SCLK; VSS1; VSS2; SW1; SW2; SW3

## CON SDCARD/MLX54786-0931
designator CON?
SD-card connector, Molex 54786-0931; Part Number: CON SDCARD/MLX54786-0931; Component Kind: Standard; Component Type: Standard; Designator: CON SDCARD/MLX54786-0931; Footprint: con SD-card (Molex 54786-0931); Library Reference: CON SDCARD/MLX54786-0931; Pin Count: 11
footprint con SD-card (Molex 54786-0931)
pins: 1, 2, 3, 4, 5, 6, 7, 8, 9, 10, 11
text: VDD; DAT0; DAT1; DAT2; CD/DAT3; CMD; CLK; WP1; WP2; VSS1; VSS2

## CON SDCARD/Wurth
designator CON?  (value not drawn)
SD Card connector, Wurth  693063010911
footprint SDCARD SOCKET (WURTH ELEKTRONIK - 693063010911)
pins: 1, 2, 3, 4, 5, 6, 7, 8, 9, 10 CD, 11 WP, 12 COMGND

## CON SMA
designator CON?
SMA connector, rechtop; Part Number: CON SMA; Component Kind: Standard; Component Type: Standard; Designator: CON SMA; Footprint: con SMA (recht); Library Reference: CON SMA; Pin Count: 5
footprint con SMA (recht)
pins: 1, 2, 3, 4, 5

## CON SMA/82SMA-S50-0-45-111NE
designator CON?
connector SMA, Huber-Suhner, 82SMA-S50-0-45-111NE; Part Number: CON SMA/82SMA-S50-0-45-111NE; Component Kind: Standard; Component Type: Standard; Designator: CON SMA/82SMA-S50-0-45-111NE; Footprint: con SMA/82SMA-S50-0-45-111NE; Library Reference: CON SMA/82SMA-S50-0-45-111NE; Pin Count: 2
footprint con SMA/82SMA-S50-0-45-111NE
pins: 1, 2

## CON SMA/142-0701-881
designator CON?
SMA Jack 142-0701-881; Part Number: CON SMA/142-0701-881; Component Kind: Standard; Component Type: Standard; Designator: CON SMA/142-0701-881; Footprint: CON SMA jack/142-0701-881; Library Reference: CON SMA/142-0701-881; Pin Count: 3
footprint CON SMA jack/142-0701-881
pins: 1, 2, 3

## CON SMA/132204
designator CON?
SMA Jack 132204; Part Number: CON SMA/132204; Component Kind: Standard; Component Type: Standard; Designator: CON SMA/132204; Footprint: CON SMA Jack/132204; Library Reference: CON SMA/132204; Pin Count: 3
footprint CON SMA Jack/132204
pins: 1, 2, 3

## CON SMA/EDGE
designator CON?
SMA connector, rand pcb; Part Number: CON SMA/EDGE; Component Kind: Standard; Component Type: Standard; Designator: CON SMA/EDGE; Footprint: con SMA/edge; Library Reference: CON SMA/EDGE; Pin Count: 5
footprint con SMA/edge
pins: 1, 2, 3, 4, 5

## CON SMA/G
designator CON?
SMA connector, gebogen; Part Number: CON SMA/G; Component Kind: Standard; Component Type: Standard; Designator: CON SMA/G; Footprint: con SMA/G; Library Reference: CON SMA/G; Pin Count: 5
footprint con SMA/G
pins: 1, 2, 3, 4, 5

## CON SMB/G
designator CON?
SMB connector, gebogen; Part Number: CON SMB/G; Component Kind: Standard; Component Type: Standard; Designator: CON SMB/G; Footprint: con SMB/G; Library Reference: CON SMB/G; Pin Count: 5
footprint con SMB/G
pins: 1, 2, 3, 4, 5

## CON SMD 3M/N2510-6V0C-RB-WD
designator CON?
header met behuizing, 3M, N2510-6V0C-RB-WD, recht, 2x5 pennen; Part Number: CON SMD 3M/N2510-6V0C-RB-WD; Component Kind: Standard; Component Type: Standard; Designator: CON SMD 3M/N2510-6V0C-RB-WD; Footprint: con smd N2510-6V0C-RB-WD (3M); Library Reference: CON SMD 3M/N2510-6V0C-RB-WD; Pin Count: 10
footprint con smd N2510-6V0C-RB-WD (3M)
pins: 1, 2, 3, 4, 5, 6, 7, 8, 9, 10

## CON SMD HDR 2x5
designator CON?
pcb header recht, smd 2x5  pitch 100mil; Part Number: CON SMD HDR 2x5; Component Kind: Standard; Component Type: Standard; Designator: CON SMD HDR 2x5; Footprint: con smd hdr 2x5; Library Reference: CON SMD HDR 2x5; Pin Count: 10
footprint con smd hdr 2x5
pins: 1, 2, 3, 4, 5, 6, 7, 8, 9, 10

## CON SMD HRWN/M30-6000646
designator CON?
smd header, Harwin, type M30-6000646; Part Number: CON SMD HRWN/M30-6000646; Component Kind: Standard; Component Type: Standard; Designator: CON SMD HRWN/M30-6000646; Footprint: con smd M30-6000646 (Harwin); Library Reference: CON SMD HRWN/M30-6000646; Pin Count: 6
footprint con smd M30-6000646 (Harwin)
pins: 1, 2, 3, 4, 5, 6

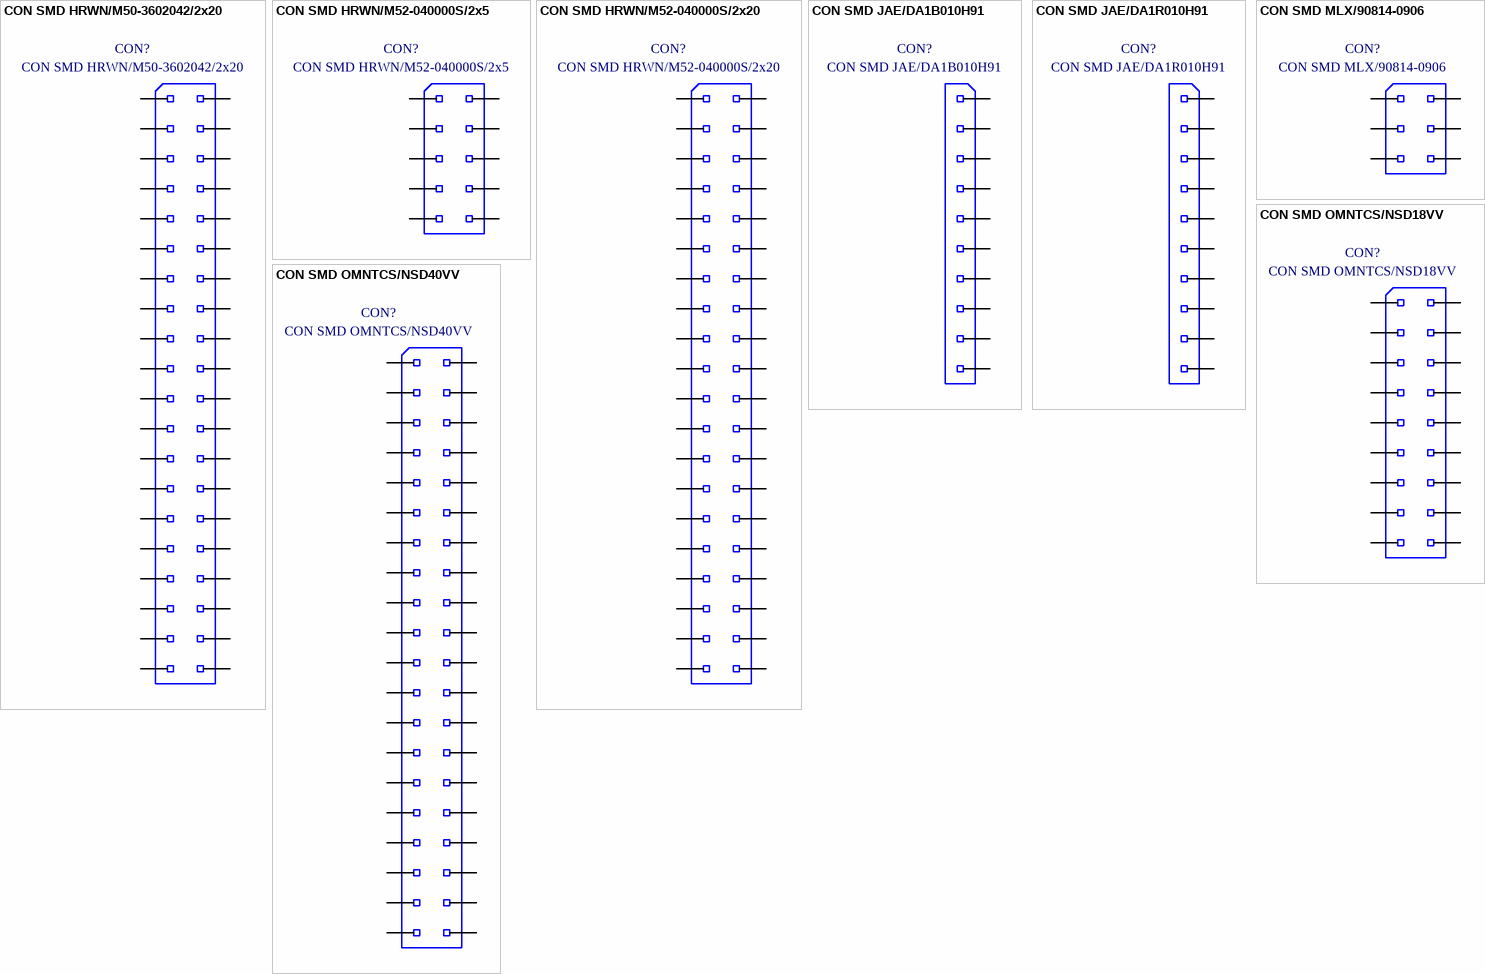
[diagram p253: symbols CON SMD HRWN/M50-3602042/2x20 to CON SMD OMNTCS/NSD40VV]

## CON SMD HRWN/M50-3602042/2x20
designator CON?
smd header, Harwin, type M50-3602042, 2x20; Part Number: CON SMD HRWN/M50-3602042/2x20; Component Kind: Standard; Component Type: Standard; Designator: CON SMD HRWN/M50-3602042/2x20; Footprint: con hdr p50/50 2x20 (Harwin); Library Reference: CON SMD HRWN/M50-3602042/2x20; Pin Count: 40
footprint con hdr p50/50 2x20 (Harwin)
pins: 1, 2, 3, 4, 5, 6, 7, 8, 9, 10, 11, 12, 13, 14, 15, 16, 17, 18, 19, 20, 21, 22, 23, 24, 25, 26, 27, 28, 29, 30, 31, 32, 33, 34, 35, 36, 37, 38, 39, 40

## CON SMD HRWN/M52-040000S/2x5
designator CON?
smd header, Harwin, type M52-040000S, 2x5; Part Number: CON SMD HRWN/M52-040000S/2x5; Component Kind: Standard; Component Type: Standard; Designator: CON SMD HRWN/M52-040000S/2x5; Footprint: con hdr p50/100 2x5 (Harwin); Library Reference: CON SMD HRWN/M52-040000S/2x5; Pin Count: 10
footprint con hdr p50/100 2x5 (Harwin)
pins: 1, 2, 3, 4, 5, 6, 7, 8, 9, 10

## CON SMD HRWN/M52-040000S/2x20
designator CON?
smd header, Harwin, type M52-040000S, 2x20; Part Number: CON SMD HRWN/M52-040000S/2x20; Component Kind: Standard; Component Type: Standard; Designator: CON SMD HRWN/M52-040000S/2x20; Footprint: con hdr p50/100 2x20 (Harwin); Library Reference: CON SMD HRWN/M52-040000S/2x20; Pin Count: 40
footprint con hdr p50/100 2x20 (Harwin)
pins: 1, 2, 3, 4, 5, 6, 7, 8, 9, 10, 11, 12, 13, 14, 15, 16, 17, 18, 19, 20, 21, 22, 23, 24, 25, 26, 27, 28, 29, 30, 31, 32, 33, 34, 35, 36, 37, 38, 39, 40

## CON SMD JAE/DA1B010H91
designator CON?
connector smd JAE, DA1B010H91; Part Number: CON SMD JAE/DA1B010H91; Component Kind: Standard; Component Type: Standard; Designator: CON SMD JAE/DA1B010H91; Footprint: con DA1B010H91 (JAE); Library Reference: CON SMD JAE/DA1B010H91; Pin Count: 10
footprint con DA1B010H91 (JAE)
pins: 1, 2, 3, 4, 5, 6, 7, 8, 9, 10

## CON SMD JAE/DA1R010H91
designator CON?
connector smd JAE, DA1R010H91; Part Number: CON SMD JAE/DA1R010H91; Component Kind: Standard; Component Type: Standard; Designator: CON SMD JAE/DA1R010H91; Footprint: con DA1R010H91 (JAE); Library Reference: CON SMD JAE/DA1R010H91; Pin Count: 10
footprint con DA1R010H91 (JAE)
pins: 1, 2, 3, 4, 5, 6, 7, 8, 9, 10

## CON SMD MLX/90814-0906
designator CON?
connector smd, Molex Picoflex 6p, 90814-0906; Part Number: CON SMD MLX/90814-0906; Component Kind: Standard; Component Type: Standard; Designator: CON SMD MLX/90814-0906; Footprint: con smd 90814-0906 (Molex); Library Reference: CON SMD MLX/90814-0906; Pin Count: 6
footprint con smd 90814-0906 (Molex)
pins: 1, 2, 3, 4, 5, 6

## CON SMD OMNTCS/NSD18VV
designator CON?
connector smd Omnetics, type NSD18VV; Part Number: CON SMD OMNTCS/NSD18VV; Component Kind: Standard; Component Type: Standard; Designator: CON SMD OMNTCS/NSD18VV; Footprint: con NSD18VV (OMNETICS); Library Reference: CON SMD OMNTCS/NSD18VV; Pin Count: 18
footprint con NSD18VV (OMNETICS)
pins: 1, 2, 3, 4, 5, 6, 7, 8, 9, 10, 11, 12, 13, 14, 15, 16, 17, 18

## CON SMD OMNTCS/NSD40VV
designator CON?
connector smd Omnetics, type NSD40VV; Part Number: CON SMD OMNTCS/NSD40VV; Component Kind: Standard; Component Type: Standard; Designator: CON SMD OMNTCS/NSD40VV; Footprint: con NSD40VV (OMNETICS); Library Reference: CON SMD OMNTCS/NSD40VV; Pin Count: 40
footprint con NSD40VV (OMNETICS)
pins: 1, 2, 3, 4, 5, 6, 7, 8, 9, 10, 11, 12, 13, 14, 15, 16, 17, 18, 19, 20, 21, 22, 23, 24, 25, 26, 27, 28, 29, 30, 31, 32, 33, 34, 35, 36, 37, 38, 39, 40

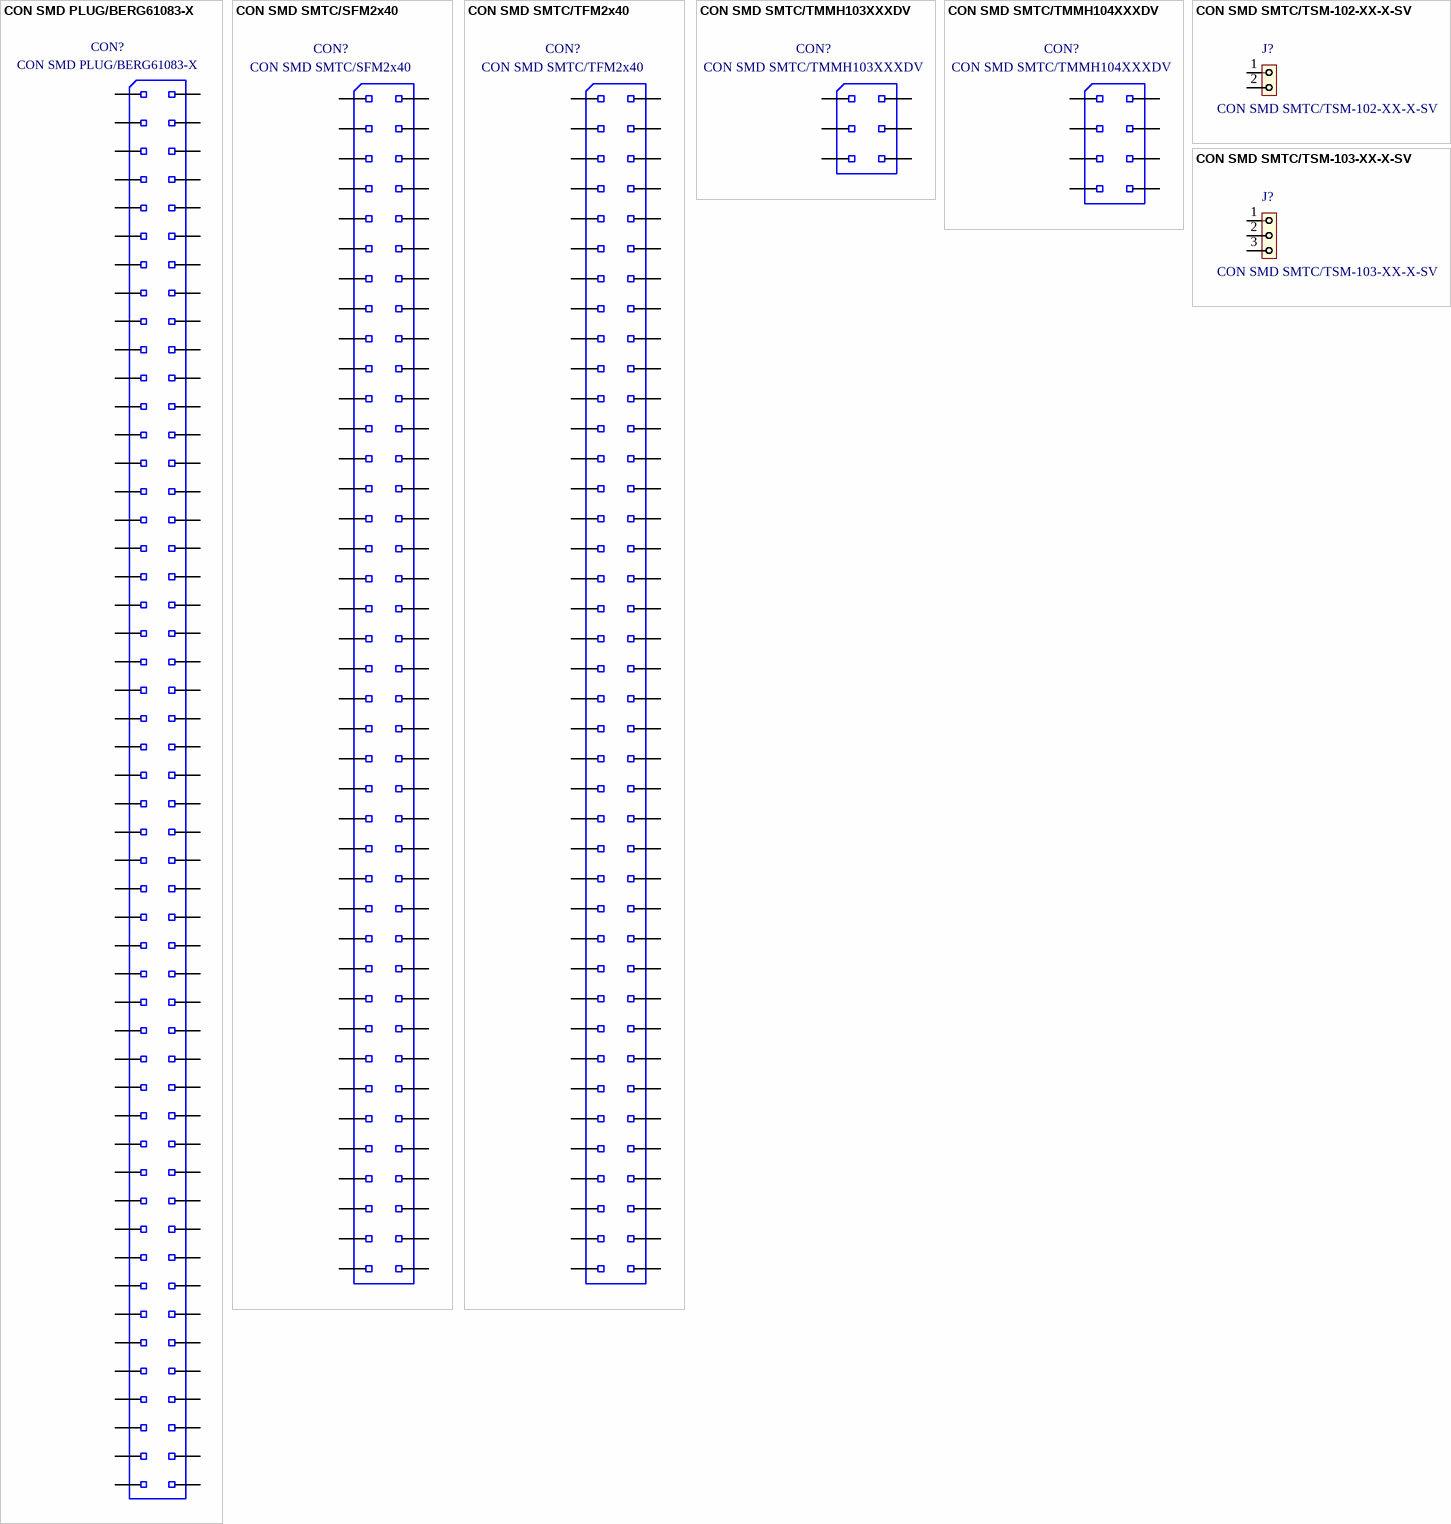
[diagram p254: symbols CON SMD PLUG/BERG61083-X to CON SMD SMTC/TSM-103-XX-X-SV]

## CON SMD PLUG/BERG61083-X
designator CON?
connector smd BERG, plug 2x50, type 61083-*, pitch 0.8mm; Part Number: CON SMD PLUG/BERG61083-X; Component Kind: Standard; Component Type: Standard; Designator: CON SMD PLUG/BERG61083-X; Footprint: con plug p0.8mm 2x50 (BERG 61083-10xxxx); Library Reference: CON SMD PLUG/BERG61083-X; Pin Count: 100
footprint con plug p0.8mm 2x50 (BERG 61083-10xxxx)
pins: 1, 2, 3, 4, 5, 6, 7, 8, 9, 10, 11, 12, 13, 14, 15, 16, 17, 18, 19, 20, 21, 22, 23, 24, 25, 26, 27, 28, 29, 30, 31, 32, 33, 34, 35, 36, 37, 38, 39, 40, 41, 42, 43, 44, 45, 46, 47, 48, 49, 50, 51, 52, 53, 54, 55, 56, 57, 58, 59, 60, 61, 62, 63, 64, 65, 66, 67, 68, 69, 70, 71, 72, 73, 74, 75, 76, 77, 78, 79, 80, 81, 82, 83, 84, 85, 86, 87, 88, 89, 90, 91, 92, 93, 94, 95, 96, 97, 98, 99, 100

## CON SMD SMTC/SFM2x40
designator CON?
connector smd Samtec, type SFM, socket 2x40, pitch 50mil; Part Number: CON SMD SMTC/SFM2x40; Component Kind: Standard; Component Type: Standard; Designator: CON SMD SMTC/SFM2x40; Footprint: con sock p50 2x40 (SAMTEC SFM); Library Reference: CON SMD SMTC/SFM2x40; Pin Count: 80
footprint con sock p50 2x40 (SAMTEC SFM)
pins: 1, 2, 3, 4, 5, 6, 7, 8, 9, 10, 11, 12, 13, 14, 15, 16, 17, 18, 19, 20, 21, 22, 23, 24, 25, 26, 27, 28, 29, 30, 31, 32, 33, 34, 35, 36, 37, 38, 39, 40, 41, 42, 43, 44, 45, 46, 47, 48, 49, 50, 51, 52, 53, 54, 55, 56, 57, 58, 59, 60, 61, 62, 63, 64, 65, 66, 67, 68, 69, 70, 71, 72, 73, 74, 75, 76, 77, 78, 79, 80

## CON SMD SMTC/TFM2x40
designator CON?
connector smd Samtec, type TFM, header 2x40, pitch 50mil; Part Number: CON SMD SMTC/TFM2x40; Component Kind: Standard; Component Type: Standard; Designator: CON SMD SMTC/TFM2x40; Footprint: con hdr p50 2x40 (SAMTEC TFM); Library Reference: CON SMD SMTC/TFM2x40; Pin Count: 80
footprint con hdr p50 2x40 (SAMTEC TFM)
pins: 1, 2, 3, 4, 5, 6, 7, 8, 9, 10, 11, 12, 13, 14, 15, 16, 17, 18, 19, 20, 21, 22, 23, 24, 25, 26, 27, 28, 29, 30, 31, 32, 33, 34, 35, 36, 37, 38, 39, 40, 41, 42, 43, 44, 45, 46, 47, 48, 49, 50, 51, 52, 53, 54, 55, 56, 57, 58, 59, 60, 61, 62, 63, 64, 65, 66, 67, 68, 69, 70, 71, 72, 73, 74, 75, 76, 77, 78, 79, 80

## CON SMD SMTC/TMMH103XXXDV
designator CON?
connector smd Samtec, type TMMH, header 2x3, pitch 2mm; Part Number: CON SMD SMTC/TMMH103XXXDV; Component Kind: Standard; Component Type: Standard; Designator: CON SMD SMTC/TMMH103XXXDV; Footprint: con hdr p2mm 2x3 (SAMTEC TMMH); Library Reference: CON SMD SMTC/TMMH103XXXDV; Pin Count: 6
footprint con hdr p2mm 2x3 (SAMTEC TMMH)
pins: 1, 2, 3, 4, 5, 6

## CON SMD SMTC/TMMH104XXXDV
designator CON?
connector smd Samtec, type TMMH, header 2x4, pitch 2mm; Part Number: CON SMD SMTC/TMMH104XXXDV; Component Kind: Standard; Component Type: Standard; Designator: CON SMD SMTC/TMMH104XXXDV; Footprint: con hdr p2mm 2x4 (SAMTEC TMMH); Library Reference: CON SMD SMTC/TMMH104XXXDV; Pin Count: 8
footprint con hdr p2mm 2x4 (SAMTEC TMMH)
pins: 1, 2, 3, 4, 5, 6, 7, 8

## CON SMD SMTC/TSM-102-XX-X-SV
designator J?
smd header 1x2 SMTC/TSM-102-XX-X-SV
footprint CON SMD SMTC/TSM-102-XX-X-SV
pins: 1, 2

## CON SMD SMTC/TSM-103-XX-X-SV
designator J?
smd header 1x3 SMTC/TSM-103-XX-X-SV
footprint CON SMD SMTC/TSM-103-XX-X-SV
pins: 1, 2, 3

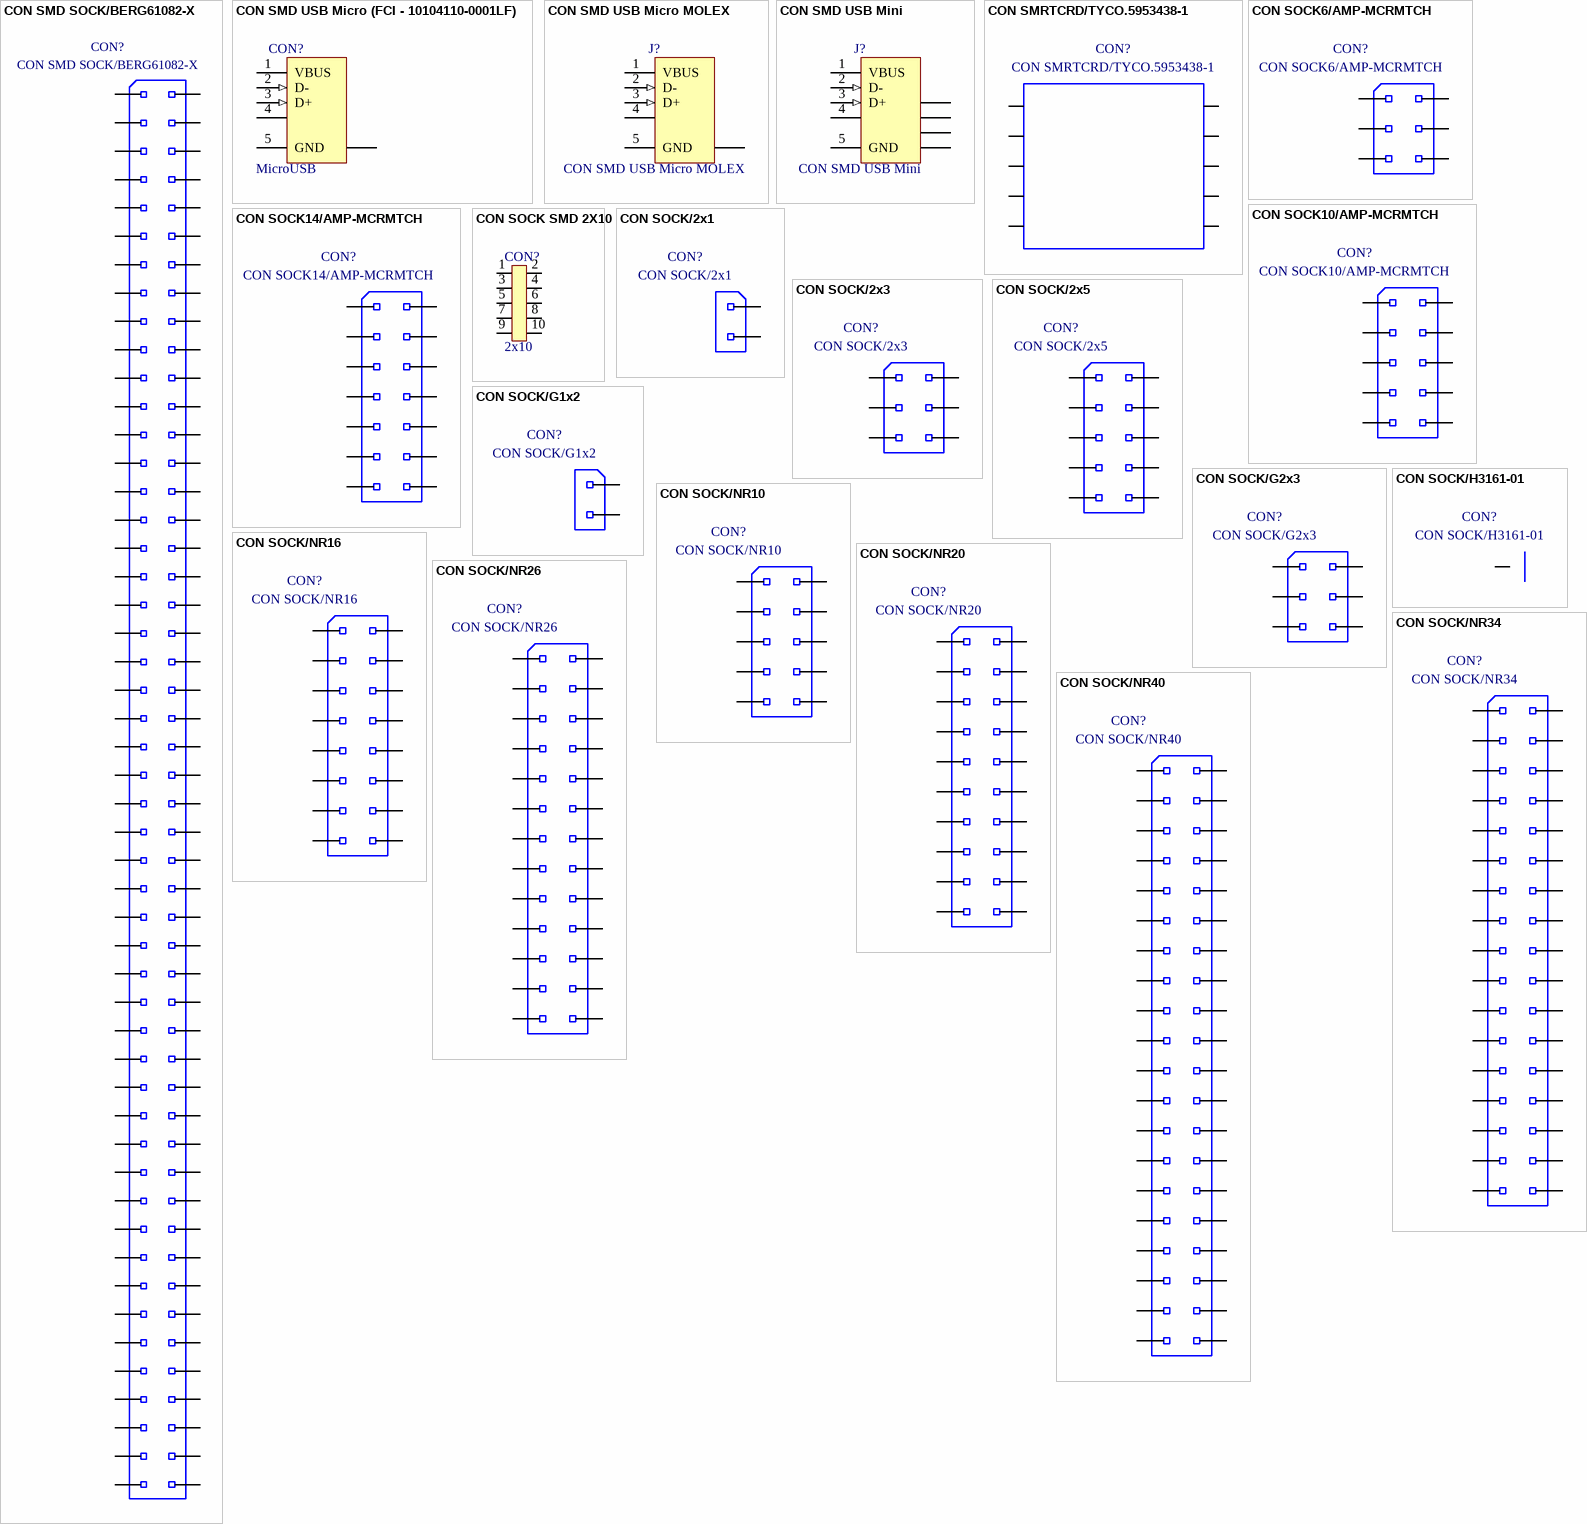
[diagram p255: symbols CON SMD SOCK/BERG61082-X to CON SOCK/NR40]

## CON SMD SOCK/BERG61082-X
designator CON?
connector smd BERG, socket 2x50, type 61082-*, pitch 0.8mm; Part Number: CON SMD SOCK/BERG61082-X; Component Kind: Standard; Component Type: Standard; Designator: CON SMD SOCK/BERG61082-X; Footprint: con sock p0.8mm 2x50 (BERG 61082-10xxxx); Library Reference: CON SMD SOCK/BERG61082-X; Pin Count: 100
footprint con sock p0.8mm 2x50 (BERG 61082-10xxxx)
pins: 1, 2, 3, 4, 5, 6, 7, 8, 9, 10, 11, 12, 13, 14, 15, 16, 17, 18, 19, 20, 21, 22, 23, 24, 25, 26, 27, 28, 29, 30, 31, 32, 33, 34, 35, 36, 37, 38, 39, 40, 41, 42, 43, 44, 45, 46, 47, 48, 49, 50, 51, 52, 53, 54, 55, 56, 57, 58, 59, 60, 61, 62, 63, 64, 65, 66, 67, 68, 69, 70, 71, 72, 73, 74, 75, 76, 77, 78, 79, 80, 81, 82, 83, 84, 85, 86, 87, 88, 89, 90, 91, 92, 93, 94, 95, 96, 97, 98, 99, 100

## CON SMD USB Micro (FCI - 10104110-0001LF)
designator CON?, comment MicroUSB
USB Micro (FCI - 10104110-0001LF)
footprint smd CON Micro USB (FCI - 10104110-0001LF)
pins: 1 VBUS (power) "Power", 2 D- (in) "-DATA", 3 D+ (in) "+DATA", 4 GND (power) "Ground", 5 GND "Shield", 6 SHLD "Shield"

## CON SMD USB Micro MOLEX
designator J?
MOLEX - 47589-0001 - MICRO USB TYPE AB
footprint SMD USB MOLEX (47589-0001 Molex MICRO USB TYPE AB)
pins: 1 VBUS (power) "Power", 2 D- (in) "-DATA", 3 D+ (in) "+DATA", 4 GND (power) "Ground", 5 GND "Shield", 6 SHLD "Shield"

## CON SMD USB Mini
designator J?
MULTICOMP - MC32598 Mini-USB connector; Part Number: CON SMD USB Mini; Component Kind: Standard; Component Type: Standard; Designator: CON SMD USB Mini; Footprint: SMD USB mini; Library Reference: CON SMD USB Mini; Pin Count: 9
footprint SMD USB mini
pins: 1 VBUS (power) "Power", 2 D- (in) "-DATA", 3 D+ (in) "+DATA", 4 GND (power) "Ground", 5 GND "Shield", 6 SHLD "Shield", 7 SHLD "Shield", 8 SHLD "Shield", 9 SHLD "Shield"

## CON SMRTCRD/TYCO.5953438-1
designator CON?
connector SmartCard, Tyco 5953438-1; Part Number: CON SMRTCRD/TYCO.5953438-1; Component Kind: Standard; Component Type: Standard; Designator: CON SMRTCRD/TYCO.5953438-1; Footprint: con smartcard (Tyco 5953438-1); Library Reference: CON SMRTCRD/TYCO.5953438-1; Pin Count: 10
footprint con smartcard (Tyco 5953438-1)
pins: 1 C1, 2 C2, 3 C3, 4 C4, 5 C5, 6 C6, 7 C7, 8 C8, 9 SW1, 10 SW2

## CON SOCK6/AMP-MCRMTCH
designator CON?
Part Number: CON SOCK6/AMP-MCRMTCH; Component Kind: Standard; Component Type: Standard; Designator: CON SOCK6/AMP-MCRMTCH; Footprint: con SOCK6 (AMP Micro-Match); Library Reference: CON SOCK6/AMP-MCRMTCH; Pin Count: 6
footprint con SOCK6 (AMP Micro-Match)
pins: 1, 2, 3, 4, 5, 6

## CON SOCK10/AMP-MCRMTCH
designator CON?
Part Number: CON SOCK10/AMP-MCRMTCH; Component Kind: Standard; Component Type: Standard; Designator: CON SOCK10/AMP-MCRMTCH; Footprint: con SOCK10 (AMP Micro-Match); Library Reference: CON SOCK10/AMP-MCRMTCH; Pin Count: 10
footprint con SOCK10 (AMP Micro-Match)
pins: 1, 2, 3, 4, 5, 6, 7, 8, 9, 10

## CON SOCK14/AMP-MCRMTCH
designator CON?
Part Number: CON SOCK14/AMP-MCRMTCH; Component Kind: Standard; Component Type: Standard; Designator: CON SOCK14/AMP-MCRMTCH; Footprint: con SOCK14 (AMP Micro-Match); Library Reference: CON SOCK14/AMP-MCRMTCH; Pin Count: 14
footprint con SOCK14 (AMP Micro-Match)
pins: 1, 2, 3, 4, 5, 6, 7, 8, 9, 10, 11, 12, 13, 14

## CON SOCK SMD 2X10
designator CON?, comment 2x10
20021321-00020C4LF
footprint SMD hdr 2x10
pins: 1, 2, 3, 4, 5, 6, 7, 8, 9, 10

## CON SOCK/2x1
designator CON?
pcb socket, recht, 2x1, pitch 100mil; Part Number: CON SOCK/2x1; Component Kind: Standard; Component Type: Standard; Designator: CON SOCK/2x1; Footprint: con SOCK/2x1; Library Reference: CON SOCK/2x1; Pin Count: 2
footprint con SOCK/2x1
pins: 1, 2

## CON SOCK/2x3
designator CON?
pcb socket, recht, 2x3, pitch 100mil; Part Number: CON SOCK/2x3; Component Kind: Standard; Component Type: Standard; Designator: CON SOCK/2x3; Footprint: con SOCK/2x3; Library Reference: CON SOCK/2x3; Pin Count: 6
footprint con SOCK/2x3
pins: 1, 2, 3, 4, 5, 6

## CON SOCK/2x5
designator CON?
pcb socket, recht, 2x5, pitch 100mil; Part Number: CON SOCK/2x5; Component Kind: Standard; Component Type: Standard; Designator: CON SOCK/2x5; Footprint: con SOCK/2x5; Library Reference: CON SOCK/2x5; Pin Count: 10
footprint con SOCK/2x5
pins: 1, 2, 3, 4, 5, 6, 7, 8, 9, 10

## CON SOCK/G1x2
designator CON?
pcb socket, gebogen, 1x2, pitch 100mil; Part Number: CON SOCK/G1x2; Component Kind: Standard; Component Type: Standard; Designator: CON SOCK/G1x2; Footprint: con SOCK 90gr 1x2; Library Reference: CON SOCK/G1x2; Pin Count: 2
footprint con SOCK 90gr 1x2
pins: 1, 2

## CON SOCK/G2x3
designator CON?
pcb socket, gebogen, 2x3, pitch 100mil; Part Number: CON SOCK/G2x3; Component Kind: Standard; Component Type: Standard; Designator: CON SOCK/G2x3; Footprint: con SOCK 90gr 2x3; Library Reference: CON SOCK/G2x3; Pin Count: 6
footprint con SOCK 90gr 2x3
pins: 1, 2, 3, 4, 5, 6

## CON SOCK/H3161-01
designator CON?
stekkerbus 1mm niet geïsoleerd, Harwin H3161-01; Part Number: CON SOCK/H3161-01; Component Kind: Standard; Component Type: Standard; Designator: CON SOCK/H3161-01; Footprint: con SOCK H3161-01 (Harwin); Library Reference: CON SOCK/H3161-01; Pin Count: 1
footprint con SOCK H3161-01 (Harwin)
pins: 1

## CON SOCK/NR10
designator CON?
pcb socket, behuizing met nok, recht, 10 pennen; Part Number: CON SOCK/NR10; Component Kind: Standard; Component Type: Standard; Designator: CON SOCK/NR10; Library Reference: CON SOCK/NR10; Pin Count: 10
pins: 1, 2, 3, 4, 5, 6, 7, 8, 9, 10

## CON SOCK/NR16
designator CON?
pcb socket, behuizing met nok, recht, 16 pennen; Part Number: CON SOCK/NR16; Component Kind: Standard; Component Type: Standard; Designator: CON SOCK/NR16; Library Reference: CON SOCK/NR16; Pin Count: 16
pins: 1, 2, 3, 4, 5, 6, 7, 8, 9, 10, 11, 12, 13, 14, 15, 16

## CON SOCK/NR20
designator CON?
pcb socket, behuizing met nok, recht, 20 pennen; Part Number: CON SOCK/NR20; Component Kind: Standard; Component Type: Standard; Designator: CON SOCK/NR20; Library Reference: CON SOCK/NR20; Pin Count: 20
pins: 1, 2, 3, 4, 5, 6, 7, 8, 9, 10, 11, 12, 13, 14, 15, 16, 17, 18, 19, 20

## CON SOCK/NR26
designator CON?
pcb socket, behuizing met nok, recht, 26 pennen; Part Number: CON SOCK/NR26; Component Kind: Standard; Component Type: Standard; Designator: CON SOCK/NR26; Library Reference: CON SOCK/NR26; Pin Count: 26
pins: 1, 2, 3, 4, 5, 6, 7, 8, 9, 10, 11, 12, 13, 14, 15, 16, 17, 18, 19, 20, 21, 22, 23, 24, 25, 26

## CON SOCK/NR34
designator CON?
pcb socket, behuizing met nok, recht, 34 pennen; Part Number: CON SOCK/NR34; Component Kind: Standard; Component Type: Standard; Designator: CON SOCK/NR34; Library Reference: CON SOCK/NR34; Pin Count: 34
pins: 1, 2, 3, 4, 5, 6, 7, 8, 9, 10, 11, 12, 13, 14, 15, 16, 17, 18, 19, 20, 21, 22, 23, 24, 25, 26, 27, 28, 29, 30, 31, 32, 33, 34

## CON SOCK/NR40
designator CON?
pcb socket, behuizing met nok, recht, 40 pennen; Part Number: CON SOCK/NR40; Component Kind: Standard; Component Type: Standard; Designator: CON SOCK/NR40; Library Reference: CON SOCK/NR40; Pin Count: 40
pins: 1, 2, 3, 4, 5, 6, 7, 8, 9, 10, 11, 12, 13, 14, 15, 16, 17, 18, 19, 20, 21, 22, 23, 24, 25, 26, 27, 28, 29, 30, 31, 32, 33, 34, 35, 36, 37, 38, 39, 40

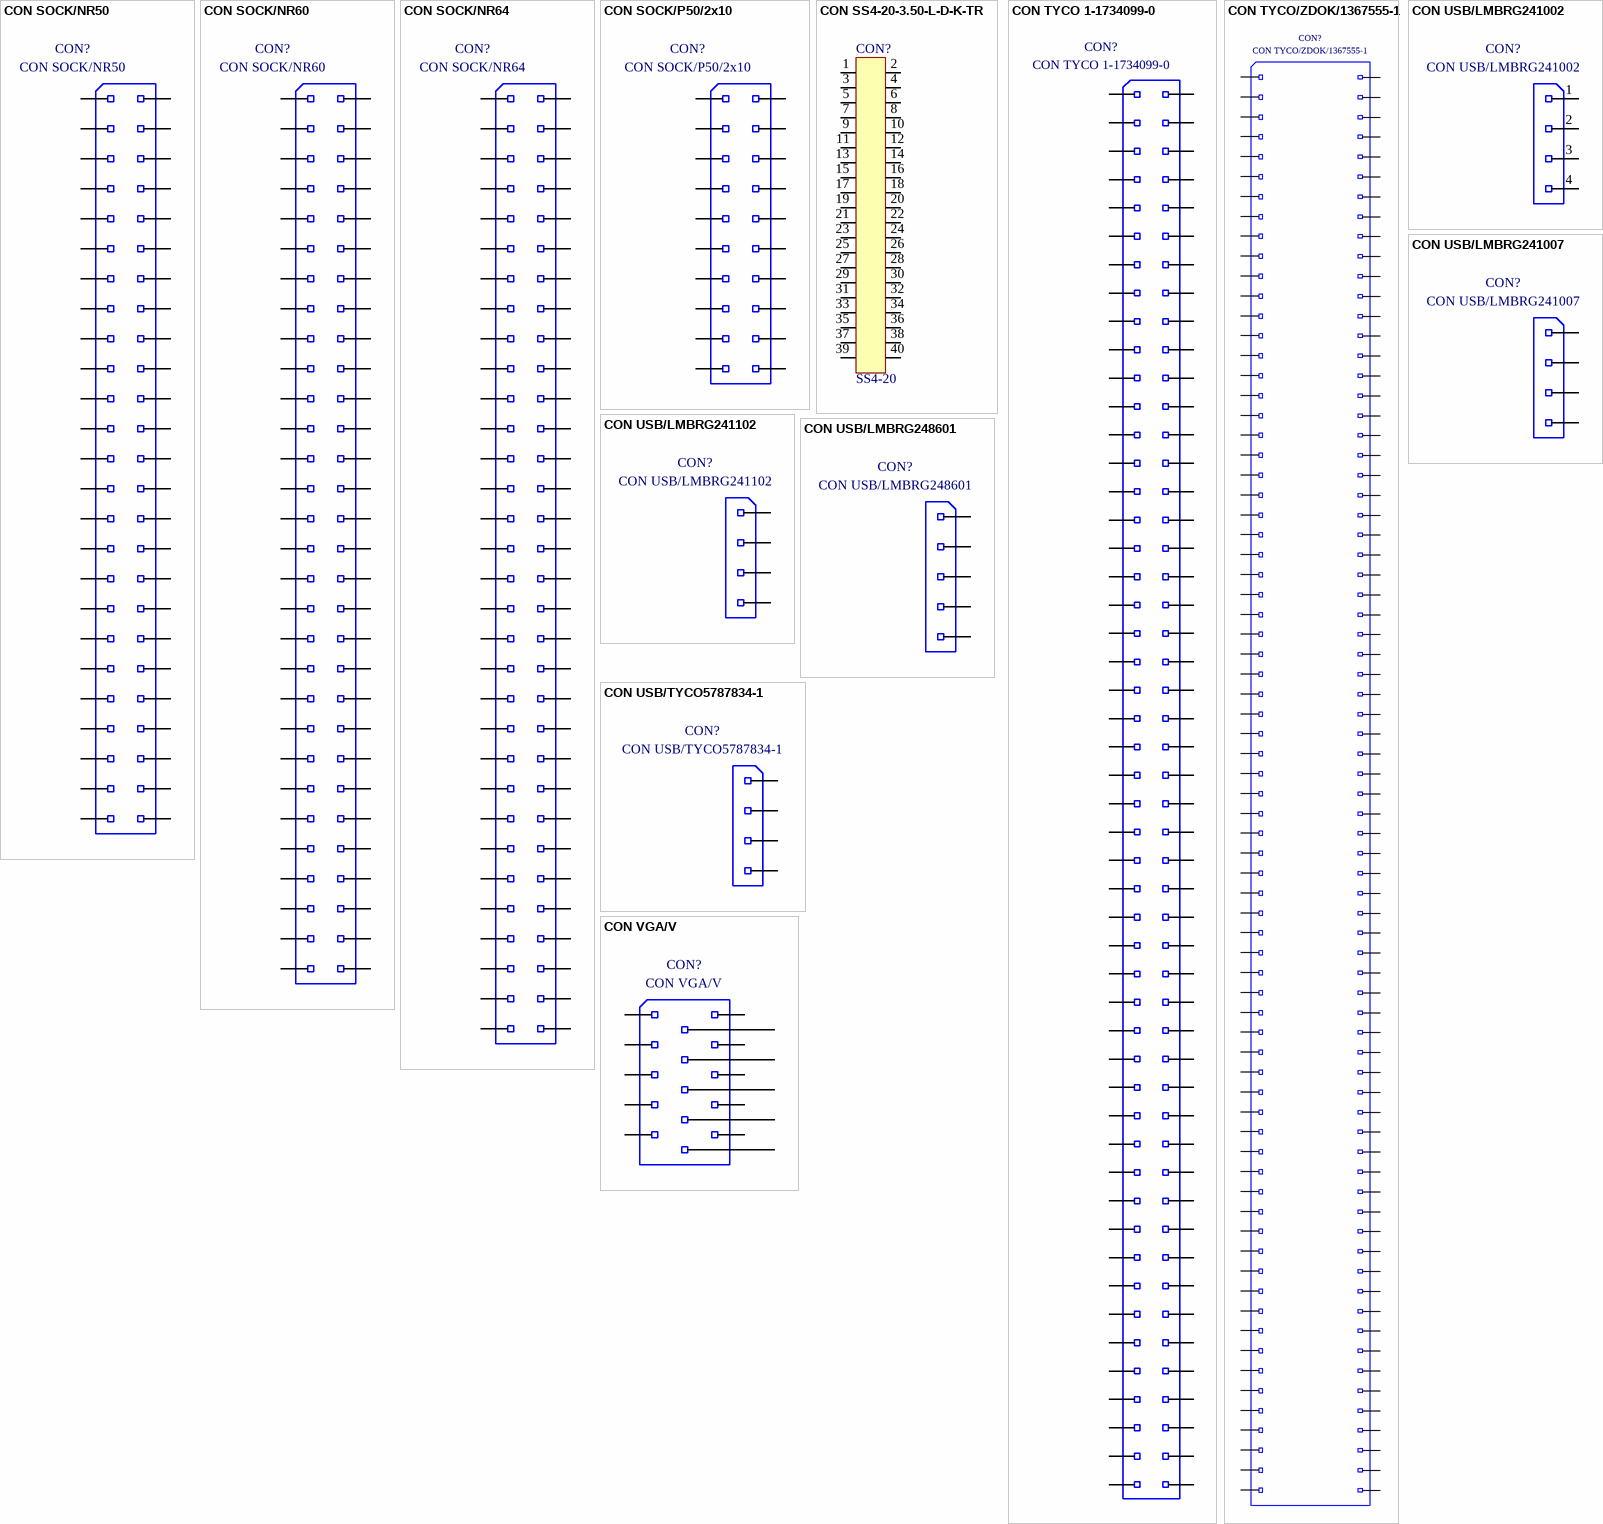
[diagram p256: symbols CON SOCK/NR50 to CON VGA/V]

## CON SOCK/NR50
designator CON?
pcb socket, behuizing met nok, recht, 50 pennen; Part Number: CON SOCK/NR50; Component Kind: Standard; Component Type: Standard; Designator: CON SOCK/NR50; Library Reference: CON SOCK/NR50; Pin Count: 50
pins: 1, 2, 3, 4, 5, 6, 7, 8, 9, 10, 11, 12, 13, 14, 15, 16, 17, 18, 19, 20, 21, 22, 23, 24, 25, 26, 27, 28, 29, 30, 31, 32, 33, 34, 35, 36, 37, 38, 39, 40, 41, 42, 43, 44, 45, 46, 47, 48, 49, 50

## CON SOCK/NR60
designator CON?
pcb socket, behuizing met nok, recht, 60 pennen; Part Number: CON SOCK/NR60; Component Kind: Standard; Component Type: Standard; Designator: CON SOCK/NR60; Library Reference: CON SOCK/NR60; Pin Count: 60
pins: 1, 2, 3, 4, 5, 6, 7, 8, 9, 10, 11, 12, 13, 14, 15, 16, 17, 18, 19, 20, 21, 22, 23, 24, 25, 26, 27, 28, 29, 30, 31, 32, 33, 34, 35, 36, 37, 38, 39, 40, 41, 42, 43, 44, 45, 46, 47, 48, 49, 50, 51, 52, 53, 54, 55, 56, 57, 58, 59, 60

## CON SOCK/NR64
designator CON?
pcb socket, behuizing met nok, recht, 64 pennen; Part Number: CON SOCK/NR64; Component Kind: Standard; Component Type: Standard; Designator: CON SOCK/NR64; Library Reference: CON SOCK/NR64; Pin Count: 64
pins: 1, 2, 3, 4, 5, 6, 7, 8, 9, 10, 11, 12, 13, 14, 15, 16, 17, 18, 19, 20, 21, 22, 23, 24, 25, 26, 27, 28, 29, 30, 31, 32, 33, 34, 35, 36, 37, 38, 39, 40, 41, 42, 43, 44, 45, 46, 47, 48, 49, 50, 51, 52, 53, 54, 55, 56, 57, 58, 59, 60, 61, 62, 63, 64

## CON SOCK/P50/2x10
designator CON?
pcb socket, recht, 2x10, pitch 50mil; Part Number: CON SOCK/P50/2x10; Component Kind: Standard; Component Type: Standard; Designator: CON SOCK/P50/2x10; Footprint: con SOCK/P50/2x10; Library Reference: CON SOCK/P50/2x10; Pin Count: 20
footprint con SOCK/P50/2x10
pins: 1, 2, 3, 4, 5, 6, 7, 8, 9, 10, 11, 12, 13, 14, 15, 16, 17, 18, 19, 20

## CON SS4-20-3.50-L-D-K-TR
designator CON?, comment SS4-20
Samtec SS4-20-3.50-L-D-K-TR connector
footprint con smd ss4-20 (Samtec SS4-20)
pins: 1, 2, 3, 4, 5, 6, 7, 8, 9, 10, 11, 12, 13, 14, 15, 16, 17, 18, 19, 20, 21, 22, 23, 24, 25, 26, 27, 28, 29, 30, 31, 32, 33, 34, 35, 36, 37, 38, 39, 40

## CON TYCO 1-1734099-0
designator CON?
Connector Tyco PCB, 100 pin; Part Number: CON TYCO 1-1734099-0; Component Kind: Standard; Component Type: Standard; Designator: CON TYCO 1-1734099-0; Footprint: con pcb 100 pin (Tyco 1-1734099-0); Library Reference: CON TYCO 1-1734099-0; Pin Count: 100
footprint con pcb 100 pin (Tyco 1-1734099-0)
pins: 1, 2, 3, 4, 5, 6, 7, 8, 9, 10, 11, 12, 13, 14, 15, 16, 17, 18, 19, 20, 21, 22, 23, 24, 25, 26, 27, 28, 29, 30, 31, 32, 33, 34, 35, 36, 37, 38, 39, 40, 41, 42, 43, 44, 45, 46, 47, 48, 49, 50, 51, 52, 53, 54, 55, 56, 57, 58, 59, 60, 61, 62, 63, 64, 65, 66, 67, 68, 69, 70, 71, 72, 73, 74, 75, 76, 77, 78, 79, 80, 81, 82, 83, 84, 85, 86, 87, 88, 89, 90, 91, 92, 93, 94, 95, 96, 97, 98, 99, 100

## CON TYCO/ZDOK/1367555-1
designator CON?
connector Tyco, Z-Dok 1367555-1; Part Number: CON TYCO/ZDOK/1367555-1; Component Kind: Standard; Component Type: Standard; Designator: CON TYCO/ZDOK/1367555-1; Footprint: con TYCO 1367555-1; Library Reference: CON TYCO/ZDOK/1367555-1; Pin Count: 144
footprint con TYCO 1367555-1
pins: 1 F1, 2 F2, 3 F3, 4 F4, 5 F5, 6 F6, 7 F7, 8 F8, 9 F9, 10 F10, 11 F11, 12 F12, 13 F13, 14 F14, 15 F15, 16 F16, 17 F17, 18 F18, 19 F19, 20 F20, 21 E1, 22 E2, 23 E3, 24 E4, 25 E5, 26 E6, 27 E7, 28 E8, 29 E9, 30 E10, 31 E11, 32 E12, 33 E13, 34 E14, 35 E15, 36 E16, 37 E17, 38 E18, 39 E19, 40 E20, 41 D1, 42 D2, 43 D3, 44 D4, 45 D5, 46 D6, 47 D7, 48 D8, 49 D9, 50 D10, 51 D11, 52 D12, 53 D13, 54 D14, 55 D15, 56 D16, 57 D17, 58 D18, 59 D19, 60 D20, 61 C1, 62 C2, 63 C3, 64 C4, 65 C5, 66 C6, 67 C7, 68 C8, 69 C9, 70 C10, 71 C11, 72 C12, 73 C13, 74 C14, 75 C15, 76 C16, 77 C17, 78 C18, 79 C19, 80 C20, 81 B1, 82 B2, 83 B3, 84 B4, 85 B5, 86 B6, 87 B7, 88 B8, 89 B9, 90 B10, 91 B11, 92 B12, 93 B13, 94 B14, 95 B15, 96 B16, 97 B17, 98 B18, 99 B19, 100 B20, 101 A1, 102 A2, 103 A3, 104 A4, 105 A5, 106 A6, 107 A7, 108 A8, 109 A9, 110 A10, 111 A11, 112 A12, 113 A13, 114 A14, 115 A15, 116 A16, 117 A17, 118 A18, 119 A19, 120 A20, 121 Z1, 122 Z2, 123 Z3, 124 Z4, 125 Z5, 126 Z6, 127 Y1, 128 Y2, 129 Y3, 130 Y4, 131 Y5, 132 Y6, 133 X1, 134 X2, 135 X3, 136 X4, 137 X5, 138 X6, 139 W1, 140 W2, 141 W3, 142 W4, 143 W5, 144 W6

## CON USB/LMBRG241002
designator CON?
connector usb type A, Lumberg 241102, 90gr
footprint con USB/A (Lumberg 241002)
pins: 1, 2, 3, 4

## CON USB/LMBRG241007
designator CON?
connector usb type A, Lumberg 241007, 90gr; Part Number: CON USB/LMBRG241007; Component Kind: Standard; Component Type: Standard; Designator: CON USB/LMBRG241007; Footprint: con USB/A (Lumberg 241007); Library Reference: CON USB/LMBRG241007; Pin Count: 4
footprint con USB/A (Lumberg 241007)
pins: 1, 2, 3, 4

## CON USB/LMBRG241102
designator CON?
connector usb type B, Lumberg 241102, 90gr; Part Number: CON USB/LMBRG241102; Component Kind: Standard; Component Type: Standard; Designator: CON USB/LMBRG241102; Footprint: con USB/B (Lumberg 241102); Library Reference: CON USB/LMBRG241102; Pin Count: 4
footprint con USB/B (Lumberg 241102)
pins: 1, 2, 3, 4

## CON USB/LMBRG248601
designator CON?
smd connector mini usb type B, Lumberg 248601; Part Number: CON USB/LMBRG248601; Component Kind: Standard; Component Type: Standard; Designator: CON USB/LMBRG248601; Footprint: con mini-USB (Lumberg 248601); Library Reference: CON USB/LMBRG248601; Pin Count: 5
footprint con mini-USB (Lumberg 248601)
pins: 1, 2, 3, 4, 5

## CON USB/TYCO5787834-1
designator CON?
connector usb type B, Tyco 5787834-1; Part Number: CON USB/TYCO5787834-1; Component Kind: Standard; Component Type: Standard; Designator: CON USB/TYCO5787834-1; Footprint: con USB/B (Tyco 5787834-1); Library Reference: CON USB/TYCO5787834-1; Pin Count: 4
footprint con USB/B (Tyco 5787834-1)
pins: 1, 2, 3, 4

## CON VGA/V
designator CON?
connector VGA, vrouwelijk; Part Number: CON VGA/V; Component Kind: Standard; Component Type: Standard; Designator: CON VGA/V; Footprint: con DB15 HD/VGA V; Library Reference: CON VGA/V; Pin Count: 15
footprint con DB15 HD/VGA V
pins: 1, 2, 3, 4, 5, 6, 7, 8, 9, 10, 11, 12, 13, 14, 15

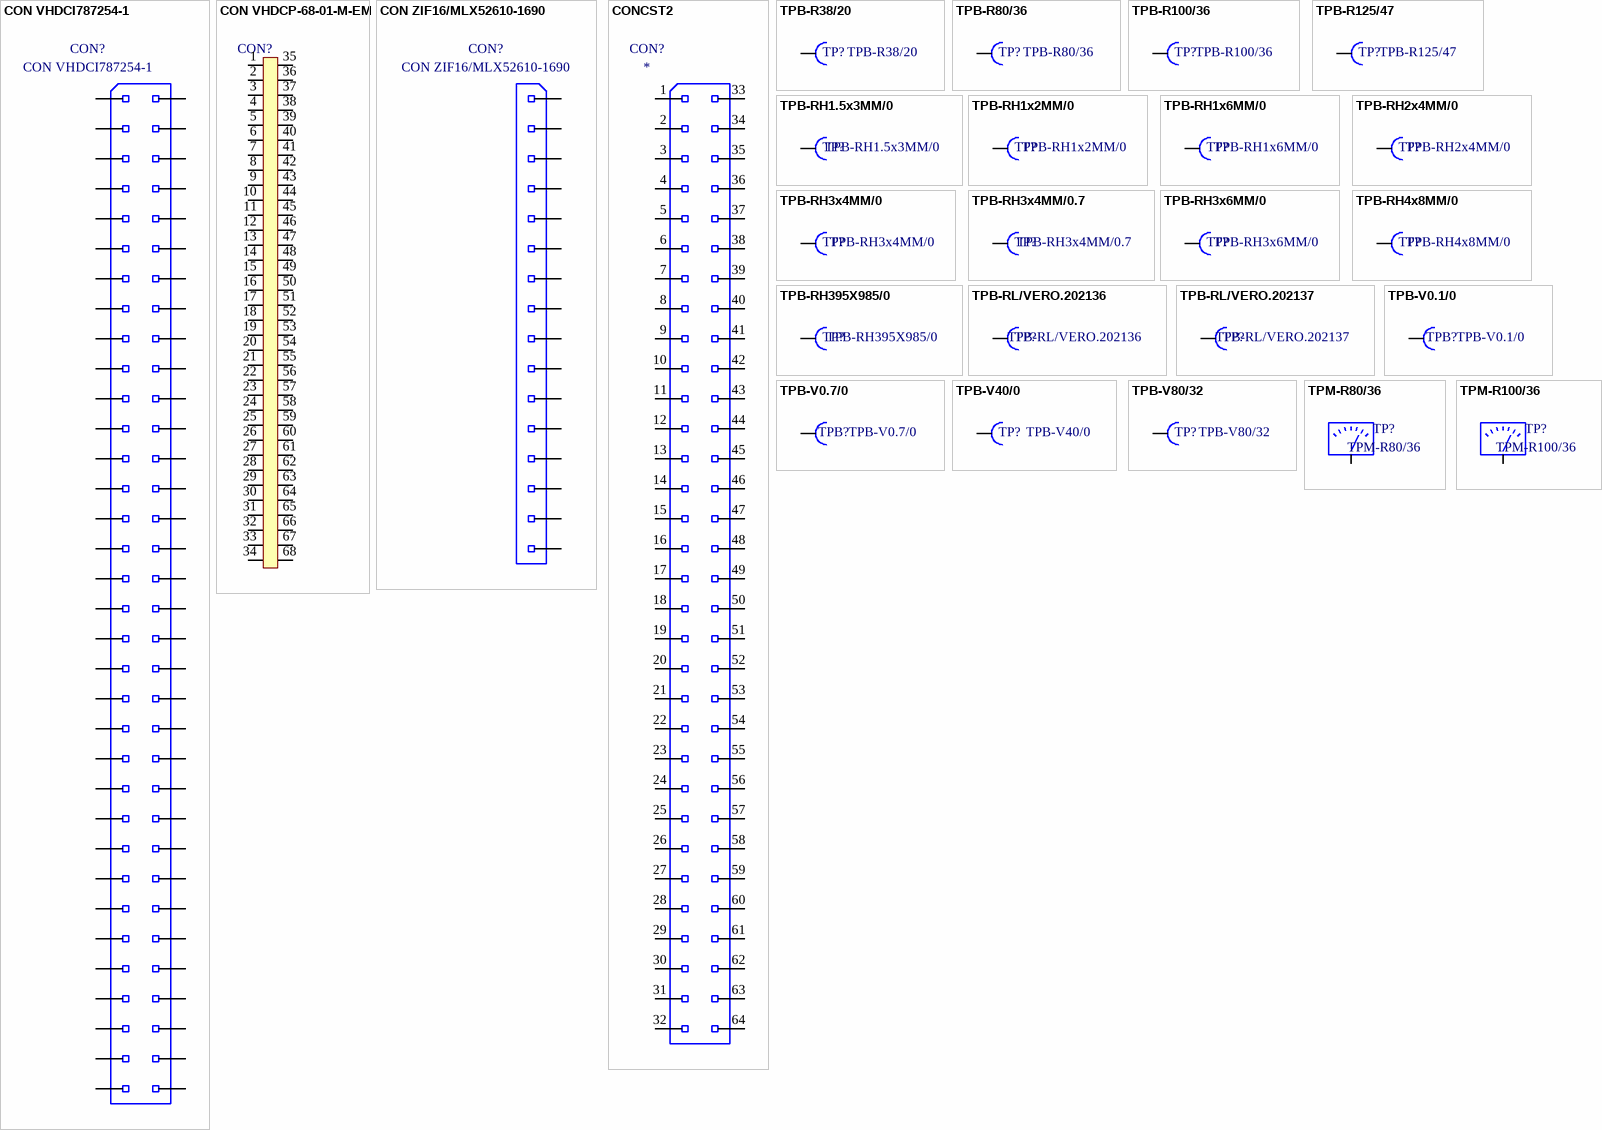
[diagram p257: symbols CON VHDCI787254-1 to TPM-R100/36]

## CON VHDCI787254-1
designator CON?
connector, AMP VHDCI 787254-1, 68 pennen; Part Number: CON VHDCI787254-1; Component Kind: Standard; Component Type: Standard; Designator: CON VHDCI787254-1; Footprint: con VHDCI 68p; Library Reference: CON VHDCI787254-1; Pin Count: 68
footprint con VHDCI 68p
pins: 1, 2, 3, 4, 5, 6, 7, 8, 9, 10, 11, 12, 13, 14, 15, 16, 17, 18, 19, 20, 21, 22, 23, 24, 25, 26, 27, 28, 29, 30, 31, 32, 33, 34, 35, 36, 37, 38, 39, 40, 41, 42, 43, 44, 45, 46, 47, 48, 49, 50, 51, 52, 53, 54, 55, 56, 57, 58, 59, 60, 61, 62, 63, 64, 65, 66, 67, 68

## CON VHDCP-68-01-M-EM
designator CON?  (value not drawn)
Samtec VHDCP-68-01-M-EM
footprint CON SMD VHDCP-68 (Samtec VHDCP-68-01-M-EM)
pins: 1, 2, 3, 4, 5, 6, 7, 8, 9, 10, 11, 12, 13, 14, 15, 16, 17, 18, 19, 20, 21, 22, 23, 24, 25, 26, 27, 28, 29, 30, 31, 32, 33, 34, 35, 36, 37, 38, 39, 40, 41, 42, 43, 44, 45, 46, 47, 48, 49, 50, 51, 52, 53, 54, 55, 56, 57, 58, 59, 60, 61, 62, 63, 64, 65, 66, 67, 68

## CON ZIF16/MLX52610-1690
designator CON?
ZIF-connector 1x16, pitch 1mm, Molex 52610-1690; Part Number: CON ZIF16/MLX52610-1690; Component Kind: Standard; Component Type: Standard; Designator: CON ZIF16/MLX52610-1690; Footprint: con ZIF1x16 p1mm (Molex 52610-1690); Library Reference: CON ZIF16/MLX52610-1690; Pin Count: 16
footprint con ZIF1x16 p1mm (Molex 52610-1690)
pins: 1, 2, 3, 4, 5, 6, 7, 8, 9, 10, 11, 12, 13, 14, 15, 16

## CONCST2
designator CON?
ref. Cedric Walravens
footprint con 41612/CGM64
pins: 1, 2, 3, 4, 5, 6, 7, 8, 9, 10, 11, 12, 13, 14, 15, 16, 17, 18, 19, 20, 21, 22, 23, 24, 25, 26, 27, 28, 29, 30, 31, 32, 33, 34, 35, 36, 37, 38, 39, 40, 41, 42, 43, 44, 45, 46, 47, 48, 49, 50, 51, 52, 53, 54, 55, 56, 57, 58, 59, 60, 61, 62, 63, 64

## TPB-R38/20
designator TP?
testpunt, boog-symbool, pad rond 38/20; Part Number: TPB-R38/20; Component Kind: Standard; Component Type: Standard; Designator: TPB-R38/20; Footprint: TESTPOINT (pad R 38/20); Library Reference: TPB-R38/20; Pin Count: 1
footprint TESTPOINT (pad R 38/20)
pins: 1